# Altium integrated library Xilinx Spartan-IIE.IntLib: 136 symbols (part 5 of 25)
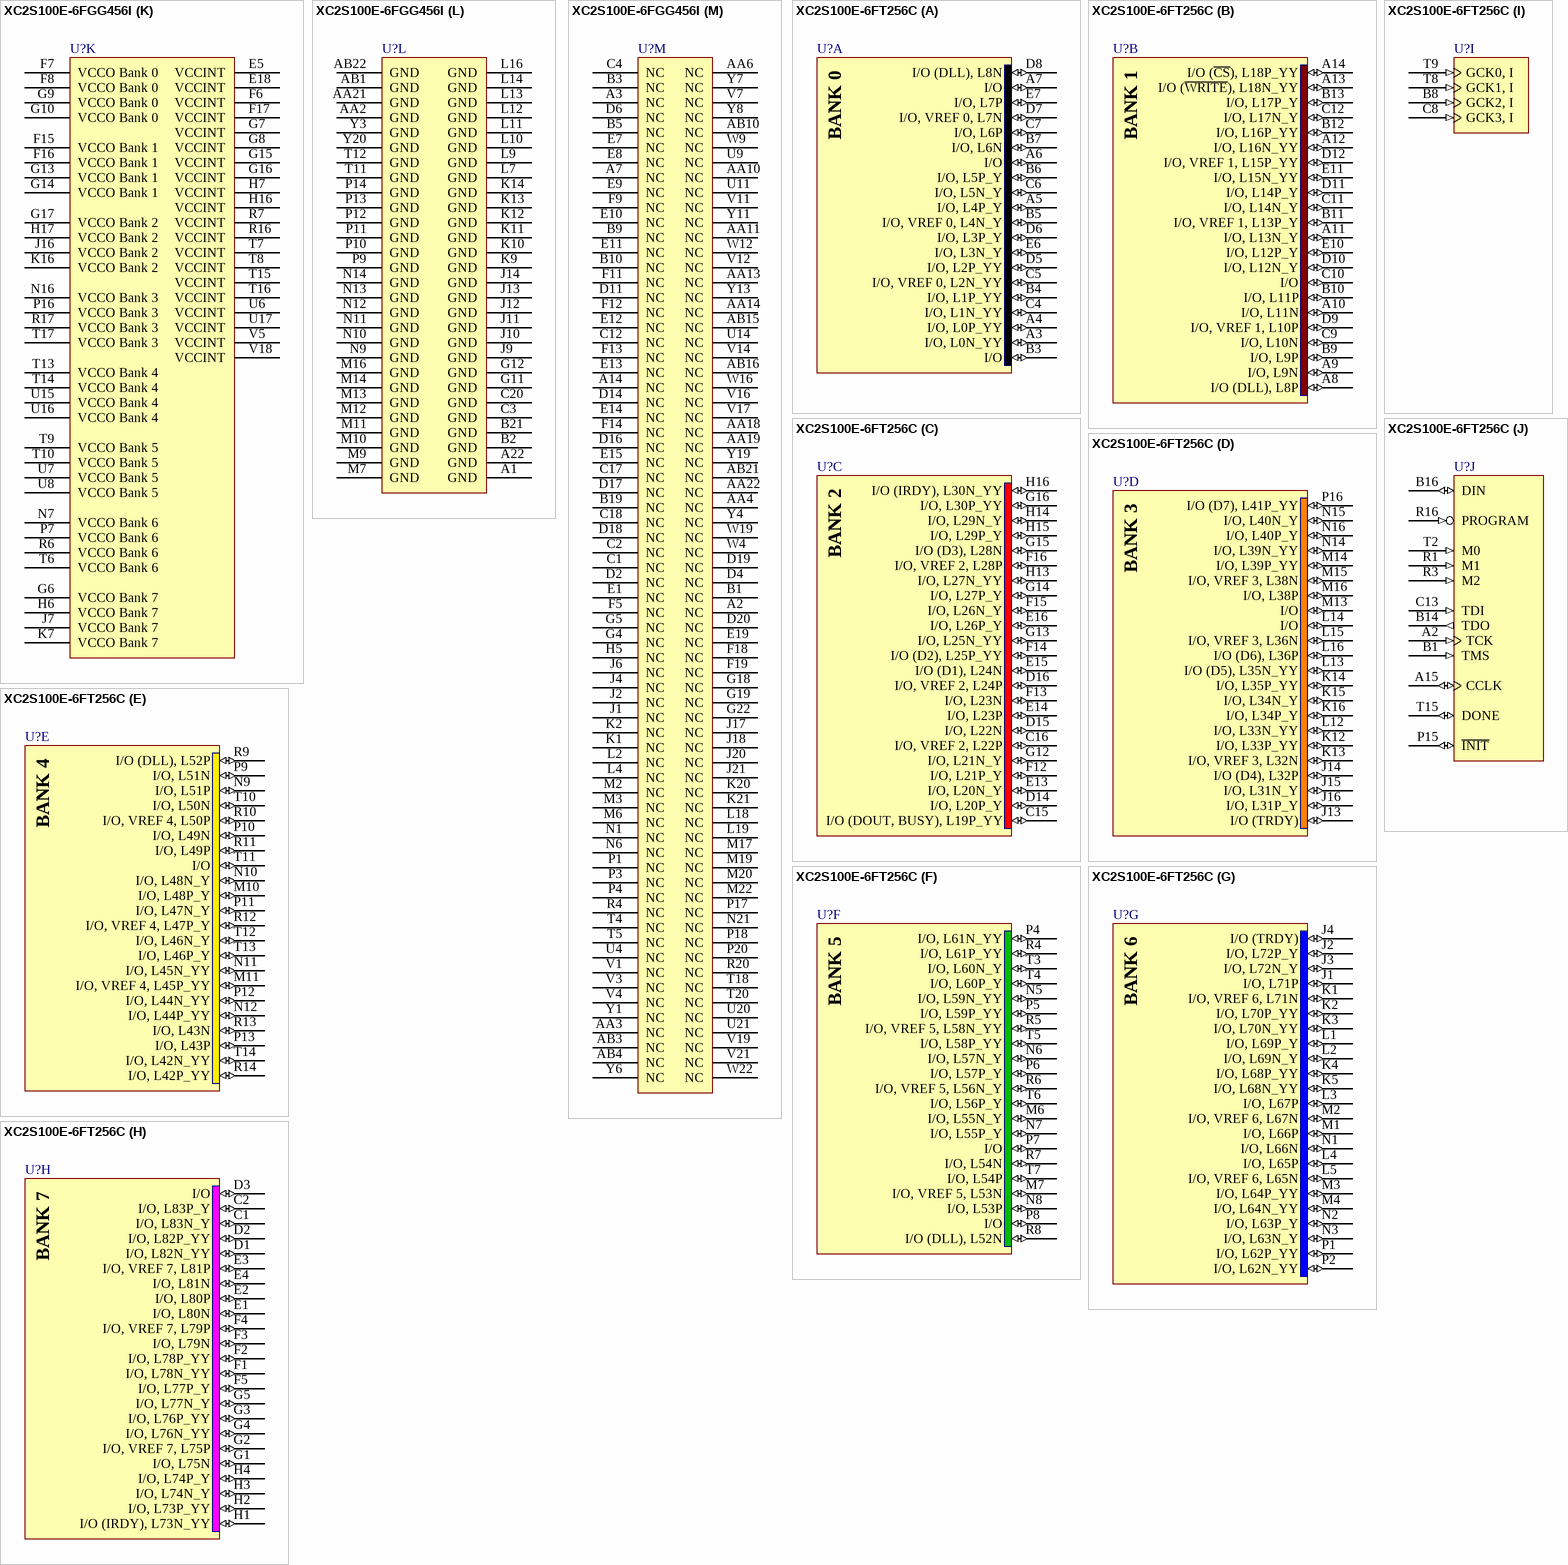
[diagram p132: symbols XC2S100E-6FGG456I to XC2S100E-6FT256C]

## XC2S100E-6FGG456I
designator U?
Spartan-IIE 1.8V FPGA, 202 User I/Os, 456-Ball FBGA, Standard Performance, Industrial Grade, Pb-Free; Published: 2-Mar-2006; LatestRevisionDate: 16-Nov-2009; LatestRevisionNote: Updated to datasheet version 2.3 Jun-2008.; DatasheetVersion: ver2.3, Jun-2008; PackageVersion: ver1.2.1, Mar-2005; PackageReference: FGG456; Publisher: Altium Limited; PackageDescription: 456-Ball Fine Pitch Ball Grid Array (FGG456) - Pb-Free; Code_JEDEC: MO-151-AAJ-1 (Depopulated); ComponentLink1Description: Spartan-IIE Datasheet; ComponentLink1URL: http://www.xilinx.com/support/documentation/data_sheets/ds077.pdf; ComponentLink2Description: FGG456 Package Drawing; ComponentLink2URL: http://www.xilinx.com/support/documentation/package_specs/fg456.pdf; ComponentLink3Description: Spartan-IIE Documents; ComponentLink3URL: http://www.xilinx.com/support/documentation/spartan-iie.htm; ComponentLink4Description: Xilinx.com Home; ComponentLink4URL: http://www.xilinx.com
footprint FGG456 (BGA, 456-Leads, Body 23x23mm, Pitch 1mm)
signal-integrity model XC2S100E_FGG456 (Spartan-IIE)
part A pins: A4 I/O (io), A5 I/O, L1N_Y (io), A6 I/O, L2P_YY (io), A8 I/O, L5P_Y (io), A9 I/O, L7N (io), A10 I/O (io), B4 I/O, L0P_Y (io), B6 I/O, VREF Bank 0, L2N_YY (io), B7 I/O (io), B8 I/O, L5N_Y (io), B11 I/O (DLL), L9N (io), C5 I/O, L0N_Y (io), C6 I/O, L1P_Y (io), C7 I/O, L3P (io), C8 I/O, L4P_Y (io), C9 I/O, L6P_Y (io), C10 I/O, L8P (io), D5 I/O (io), D7 I/O, L3N (io), D8 I/O, VREF Bank 0, L4N_Y (io), D9 I/O, L6N_Y (io), D10 I/O, VREF Bank 0, L8N (io), F10 I/O, L7P (io)
part B pins: A12 I/O (DLL), L9P (io), A13 I/O, L11N (io), A15 I/O, L14N_Y (io), A16 I/O, L16N_Y (io), A17 I/O, L18N_YY (io), A18 I/O, L19N_Y (io), A19 I/O (io), A20 I/O (~{WRITE}), L20N_YY (io), B12 I/O, L10P (io), B13 I/O, VREF Bank 1, L11P (io), B14 I/O, L13N_Y (io), B15 I/O, L14P_Y (io), B16 I/O, L16P_Y (io), B17 I/O, L18P_YY (io), B18 I/O, L19P_Y (io), B20 I/O (~{CS}), L20P_YY (io), C13 I/O, L12N (io), C14 I/O, L13P_Y (io), C15 I/O, L15N_Y (io), C16 I/O (io), D12 I/O, L10N (io), D13 I/O, L12P (io), D15 I/O, VREF Bank 1, L15P_Y (io), E16 I/O, VREF Bank 1, L17P_YY (io), E17 I/O, L17N_YY (io)
part C pins: C21 I/O (DOUT, BUSY), L21P_YY (io), D21 I/O, L22P_Y (io), D22 I/O, L22N_Y (io), E20 I/O (io), E21 I/O, L23N_Y (io), E22 I/O, L24N (io), F20 I/O, L23P_Y (io), F21 I/O, VREF Bank 2, L24P (io), F22 I/O (io), G20 I/O, L25P (io), G21 I/O, L25N (io), H18 I/O, VREF Bank 2, L26P (io), H19 I/O (D1), L26N (io), H20 I/O (D2) (io), H21 I/O (io), H22 I/O, L27P_Y (io), J19 I/O, L27N_Y (io), J22 I/O (io), K17 I/O, L28P_Y (io), K18 I/O, VREF Bank 2, L28N_Y (io), K19 I/O (D3) (io), K22 I/O, L29P_Y (io), L17 I/O, L29N_Y (io), L20 I/O, L30P_YY (io), L21 I/O (IRDY), L30N_YY (io)
part D pins: L22 I/O (TRDY) (io), M18 I/O, L31P_Y (io), M21 I/O, L31N_Y (io), N17 I/O (D4), L32P (io), N18 I/O, VREF Bank 3, L32N (io), N19 I/O, L33N_YY (io), N20 I/O, L33P_YY (io), N22 I/O, L34P_Y (io), P19 I/O, L34N_Y (io), P21 I/O, L35P_YY (io), P22 I/O (D5), L35N_YY (io), R18 I/O, VREF Bank 3, L36N (io), R19 I/O (D6), L36P (io), R21 I/O, L37N_Y (io), R22 I/O, L37P_Y (io), T19 I/O (io), T21 I/O, VREF Bank 3, L38N (io), T22 I/O, L38P (io), U18 I/O, L39N_Y (io), U19 I/O, L39P_Y (io), U22 I/O, L40P_Y (io), V20 I/O (io), V22 I/O, L40N_Y (io), Y22 I/O (D7), L41P_YY (io)
part E pins: AA15 I/O, L48N_Y (io), AA16 I/O, L46N (io), AA17 I/O, L45N_YY (io), AA20 I/O, L42P_YY (io), AB13 I/O, L52P (io), AB14 I/O, L50P (io), AB17 I/O (io), AB18 I/O, L44N_Y (io), AB19 I/O (io), AB20 I/O, L42N_YY (io), U12 I/O, L52N (io), U13 I/O, L50N (io), V13 I/O, VREF Bank 4, L51P (io), V15 I/O, VREF Bank 4, L47P_Y (io), W13 I/O, L51N (io), W14 I/O, L49P_Y (io), W15 I/O, L47N_Y (io), W17 I/O, L44P_Y (io), W18 I/O, L43P_Y (io), Y12 I/O (DLL), L53P (io), Y14 I/O, L49N_Y (io), Y15 I/O, L48P_Y (io), Y16 I/O, L46P (io), Y17 I/O, VREF Bank 4, L45P_YY (io), Y18 I/O, L43N_Y (io)
part F pins: AA5 I/O, L63N_Y (io), AA7 I/O, L60P_YY (io), AA8 I/O, L59P_Y (io), AA9 I/O, L57P_Y (io), AB5 I/O, L62N_Y (io), AB6 I/O, L62P_Y (io), AB7 I/O, VREF Bank 5, L60N_YY (io), AB8 I/O, L59N_Y (io), AB9 I/O, L57N_Y (io), AB11 I/O (DLL), L53N (io), U10 I/O, L54P (io), V6 I/O, L61N_YY (io), V8 I/O, VREF Bank 5, L58N_Y (io), V9 I/O, L56P_Y (io), V10 I/O, VREF Bank 5, L54N (io), W5 I/O, L63P_Y (io), W6 I/O, L61P_YY (io), W7 I/O (io), W8 I/O, L58P_Y (io), W10 I/O, L55N (io), W11 I/O (io), Y5 I/O (io), Y9 I/O, L56N_Y (io), Y10 I/O, L55P (io)
part G pins: M1 I/O (TRDY) (io), M4 I/O, L74P_Y (io), M5 I/O, L74N_Y (io), N2 I/O, L73P (io), N3 I/O, VREF Bank 6, L73N (io), N4 I/O, L72P_Y (io), N5 I/O, L72N_Y (io), P2 I/O, L71P_Y (io), P5 I/O, L70P_YY (io), P6 I/O, L70N_YY (io), R1 I/O, L71N_Y (io), R2 I/O, L69P (io), R3 I/O, VREF Bank 6, L69N (io), R5 I/O (io), T1 I/O, L67P (io), T2 I/O, L68P (io), T3 I/O, L68N (io), U1 I/O, VREF Bank 6, L67N (io), U2 I/O, L66P_Y (io), U3 I/O, L66N_Y (io), V2 I/O, L65N_Y (io), W1 I/O, L65P_Y (io), W2 I/O (io), W3 I/O, L64N_YY (io), Y2 I/O, L64P_YY (io)
part H pins: D1 I/O (io), D3 I/O (io), E2 I/O, L85P_Y (io), E3 I/O, L85N_Y (io), F1 I/O, L83N (io), F2 I/O, VREF Bank 7, L83P (io), F3 I/O, L84N_Y (io), F4 I/O, L84P_Y (io), G1 I/O, L82N_Y (io), G2 I/O, L82P_Y (io), G3 I/O (io), H1 I/O, L80N_YY (io), H2 I/O, L80P_YY (io), H3 I/O, VREF Bank 7, L81P (io), H4 I/O, L81N (io), J3 I/O, L79N_Y (io), J5 I/O, L79P_Y (io), K3 I/O, VREF Bank 7, L77P (io), K4 I/O, L77N (io), K5 I/O, L78P_YY (io), K6 I/O, L78N_YY (io), L1 I/O, L76P_Y (io), L3 I/O, L76N_Y (io), L5 I/O, L75P_YY (io), L6 I/O (IRDY), L75N_YY (io)
part I pins: A11 GCK2, I (in), AA12 GCK0, I (in), AB12 GCK1, I (in), C11 GCK3, I (in)
part J pins: A21 TDO (out), AA1 M0 (in), AB2 M2 (in), B22 CCLK (io), C19 TDI (in), C22 DIN (io) "I/O (DIN, D0), L21N_YY", E4 TMS (in), E6 TCK (in), U5 M1 (in), W20 DONE (io), W21 ~{INIT} (io) "I/O (I\N\I\T\), L41N_YY", Y21 PROGRAM (in)
part K pins: E5 VCCINT (power), E18 VCCINT (power), F6 VCCINT (power), F7 VCCO Bank 0 (power), F8 VCCO Bank 0 (power), F15 VCCO Bank 1 (power), F16 VCCO Bank 1 (power), F17 VCCINT (power), G6 VCCO Bank 7 (power), G7 VCCINT (power), G8 VCCINT (power), G9 VCCO Bank 0 (power), G10 VCCO Bank 0 (power), G13 VCCO Bank 1 (power), G14 VCCO Bank 1 (power), G15 VCCINT (power), G16 VCCINT (power), G17 VCCO Bank 2 (power), H6 VCCO Bank 7 (power), H7 VCCINT (power), H16 VCCINT (power), H17 VCCO Bank 2 (power), J7 VCCO Bank 7 (power), J16 VCCO Bank 2 (power), K7 VCCO Bank 7 (power), K16 VCCO Bank 2 (power), N7 VCCO Bank 6 (power), N16 VCCO Bank 3 (power), P7 VCCO Bank 6 (power), P16 VCCO Bank 3 (power), R6 VCCO Bank 6 (power), R7 VCCINT (power), R16 VCCINT (power), R17 VCCO Bank 3 (power), T6 VCCO Bank 6 (power), T7 VCCINT (power), T8 VCCINT (power), T9 VCCO Bank 5 (power), T10 VCCO Bank 5 (power), T13 VCCO Bank 4 (power), T14 VCCO Bank 4 (power), T15 VCCINT (power), T16 VCCINT (power), T17 VCCO Bank 3 (power), U6 VCCINT (power), U7 VCCO Bank 5 (power), U8 VCCO Bank 5 (power), U15 VCCO Bank 4 (power), U16 VCCO Bank 4 (power), U17 VCCINT (power), V5 VCCINT (power), V18 VCCINT (power)
part L pins: A1 GND (power), A22 GND (power), AA2 GND (power), AA21 GND (power), AB1 GND (power), AB22 GND (power), B2 GND (power), B21 GND (power), C3 GND (power), C20 GND (power), G11 GND (power), G12 GND (power), J9 GND (power), J10 GND (power), J11 GND (power), J12 GND (power), J13 GND (power), J14 GND (power), K9 GND (power), K10 GND (power), K11 GND (power), K12 GND (power), K13 GND (power), K14 GND (power), L7 GND (power), L9 GND (power), L10 GND (power), L11 GND (power), L12 GND (power), L13 GND (power), L14 GND (power), L16 GND (power), M7 GND (power), M9 GND (power), M10 GND (power), M11 GND (power), M12 GND (power), M13 GND (power), M14 GND (power), M16 GND (power), N9 GND (power), N10 GND (power), N11 GND (power), N12 GND (power), N13 GND (power), N14 GND (power), P9 GND (power), P10 GND (power), P11 GND (power), P12 GND (power), P13 GND (power), P14 GND (power), T11 GND (power), T12 GND (power), Y3 GND (power), Y20 GND (power)
part M pins: A2 NC, A3 NC, A7 NC, A14 NC, AA3 NC, AA4 NC, AA6 NC, AA10 NC, AA11 NC, AA13 NC, AA14 NC, AA18 NC, AA19 NC, AA22 NC, AB3 NC, AB4 NC, AB10 NC, AB15 NC, AB16 NC, AB21 NC, B1 NC, B3 NC, B5 NC, B9 NC, B10 NC, B19 NC, C1 NC, C2 NC, C4 NC, C12 NC, C17 NC, C18 NC, D2 NC, D4 NC, D6 NC, D11 NC, D14 NC, D16 NC, D17 NC, D18 NC, D19 NC, D20 NC, E1 NC, E7 NC, E8 NC, E9 NC, E10 NC, E11 NC, E12 NC, E13 NC, E14 NC, E15 NC, E19 NC, F5 NC, F9 NC, F11 NC, F12 NC, F13 NC, F14 NC, F18 NC, F19 NC, G4 NC, G5 NC, G18 NC, G19 NC, G22 NC, H5 NC, J1 NC, J2 NC, J4 NC, J6 NC, J17 NC, J18 NC, J20 NC, J21 NC, K1 NC, K2 NC, K20 NC, K21 NC, L2 NC, L4 NC, L18 NC, L19 NC, M2 NC, M3 NC, M6 NC, M17 NC, M19 NC, M20 NC, M22 NC, N1 NC, N6 NC, N21 NC, P1 NC, P3 NC, P4 NC, P17 NC, P18 NC, P20 NC, R4 NC, R20 NC, T4 NC, T5 NC, T18 NC, T20 NC, U4 NC, U9 NC, U11 NC, U14 NC, U20 NC, U21 NC, V1 NC, V3 NC, V4 NC, V7 NC, V11 NC, V12 NC, V14 NC, V16 NC, V17 NC, V19 NC, V21 NC, W4 NC, W9 NC, W12 NC, W16 NC, W19 NC, W22 NC, Y1 NC, Y4 NC, Y6 NC, Y7 NC, Y8 NC, Y11 NC, Y13 NC, Y19 NC
part A text: BANK 0
part B text: BANK 1
part C text: BANK 2
part D text: BANK 3
part E text: BANK 4
part F text: BANK 5
part G text: BANK 6
part H text: BANK 7

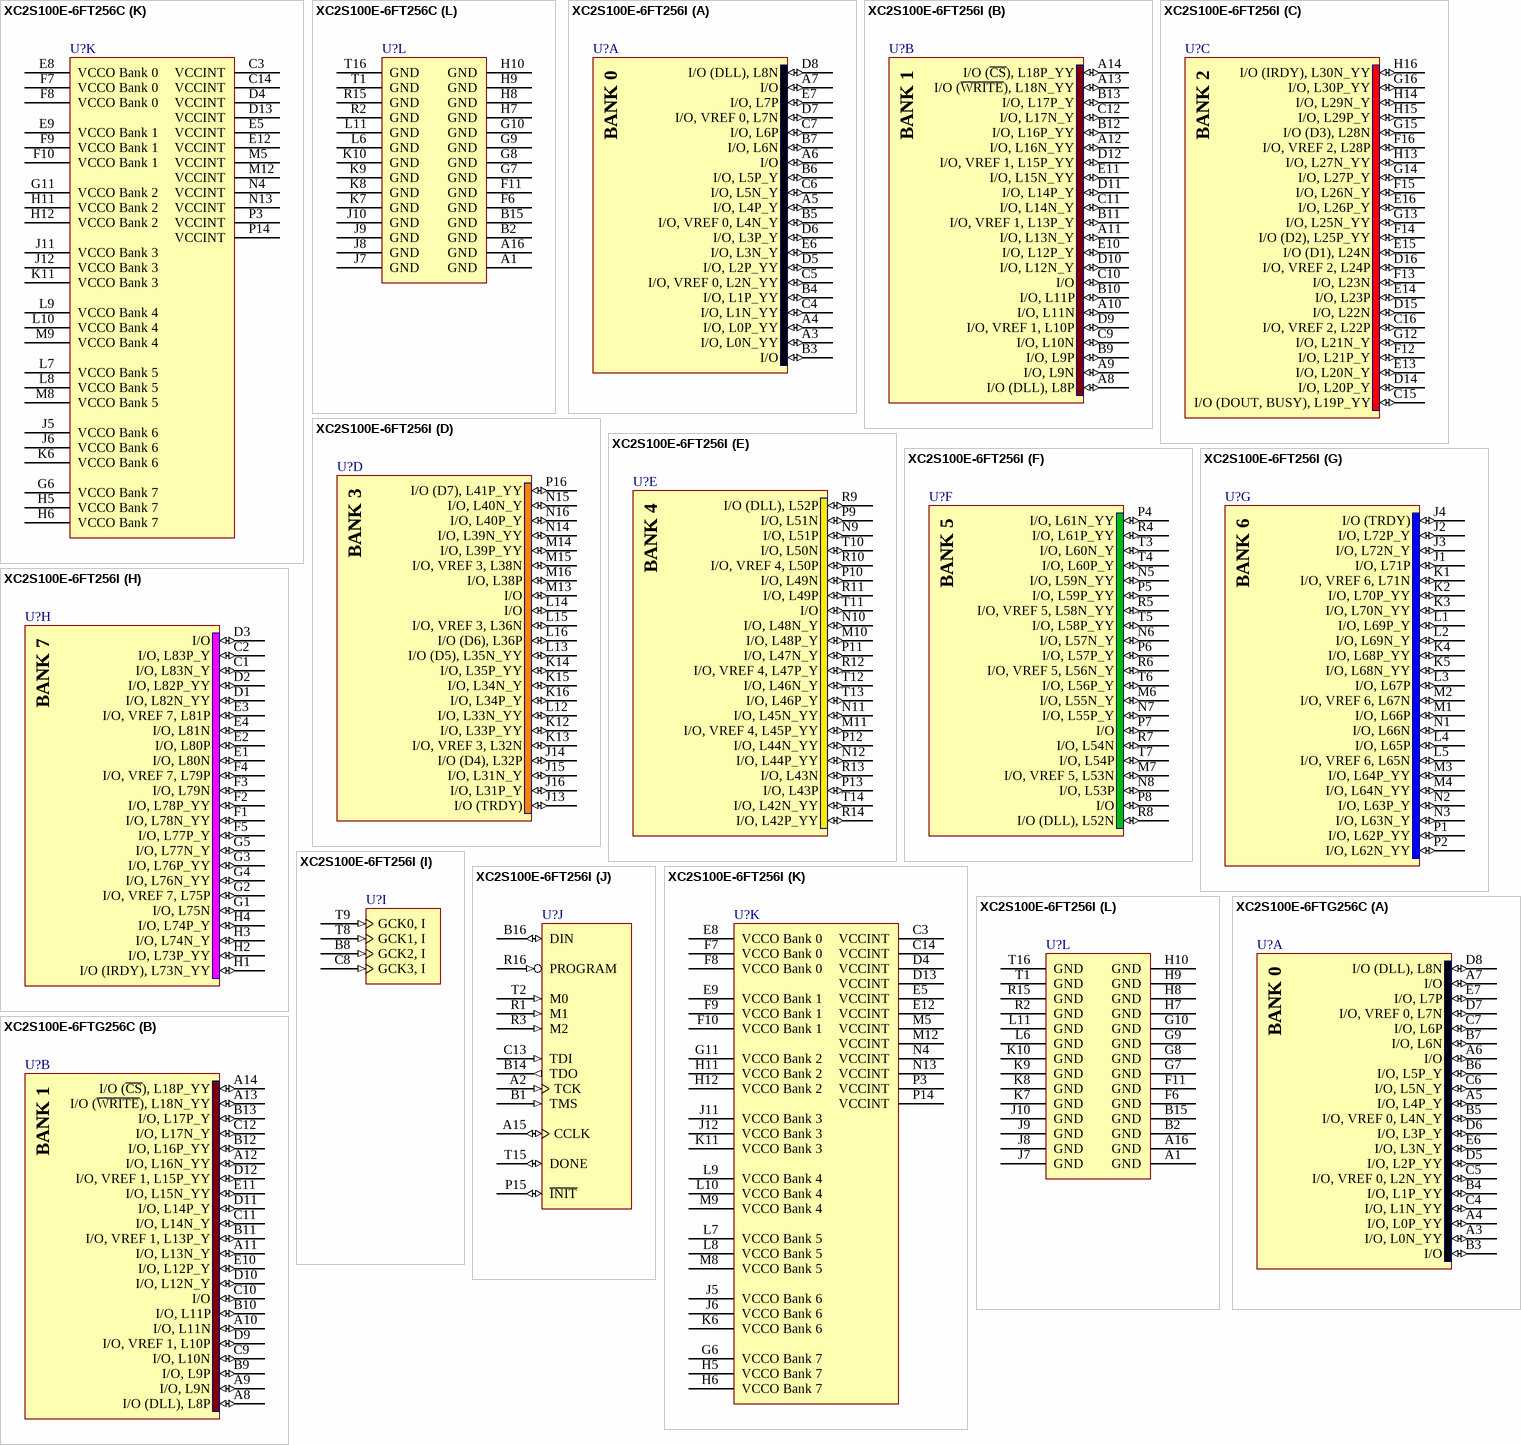
[diagram p22: symbols XC2S100E-6FT256C to XC2S100E-6FTG256C]

## XC2S100E-6FT256C
designator U?
Spartan-IIE 1.8V FPGA, 182 User I/Os, 256-Ball FTBGA, Standard Performance, Commercial Grade; Published: 19-Jul-2002; LatestRevisionDate: 16-Nov-2009; LatestRevisionNote: Updated to datasheet version 2.3 Jun-2008.; DatasheetVersion: ver2.3, Jun-2008; PackageVersion: ver1.3, Oct-2007; PackageReference: FT256; Publisher: Altium Limited; PackageDescription: 256-Ball Fine Pitch Thin Ball Grid Array 1.00 mm Pitch (FT256); Supplier 1: Digi-Key; Supplier Part Number 1: 122-1208-ND; Code_JEDEC: MS-034-AAF-1*; ComponentLink1Description: Spartan-IIE Datasheet; ComponentLink1URL: http://www.xilinx.com/support/documentation/data_sheets/ds077.pdf; ComponentLink2Description: FT256 Package Drawing; ComponentLink2URL: http://www.xilinx.com/support/documentation/package_specs/ft256.pdf; ComponentLink3Description: Spartan-IIE Documents; ComponentLink3URL: http://www.xilinx.com/support/documentation/spartan-iie.htm; ComponentLink4Description: Xilinx.com Home; ComponentLink4URL: http://www.xilinx.com
footprint FT256 (BGA, 256-Leads, Body 17x17mm, Pitch 1mm)
signal-integrity model XC2S100E_FT256 (Spartan-IIE)
part A pins: A3 I/O, L0N_YY (io), A4 I/O, L0P_YY (io), A5 I/O, L4P_Y (io), A6 I/O (io), A7 I/O (io), B3 I/O (io), B4 I/O, L1P_YY (io), B5 I/O, VREF 0, L4N_Y (io), B6 I/O, L5P_Y (io), B7 I/O, L6N (io), C4 I/O, L1N_YY (io), C5 I/O, VREF 0, L2N_YY (io), C6 I/O, L5N_Y (io), C7 I/O, L6P (io), D5 I/O, L2P_YY (io), D6 I/O, L3P_Y (io), D7 I/O, VREF 0, L7N (io), D8 I/O (DLL), L8N (io), E6 I/O, L3N_Y (io), E7 I/O, L7P (io)
part B pins: A8 I/O (DLL), L8P (io), A9 I/O, L9N (io), A10 I/O, L11N (io), A11 I/O, L13N_Y (io), A12 I/O, L16N_YY (io), A13 I/O (~{WRITE}), L18N_YY (io), A14 I/O (~{CS}), L18P_YY (io), B9 I/O, L9P (io), B10 I/O, L11P (io), B11 I/O, VREF 1, L13P_Y (io), B12 I/O, L16P_YY (io), B13 I/O, L17P_Y (io), C9 I/O, L10N (io), C10 I/O (io), C11 I/O, L14N_Y (io), C12 I/O, L17N_Y (io), D9 I/O, VREF 1, L10P (io), D10 I/O, L12N_Y (io), D11 I/O, L14P_Y (io), D12 I/O, VREF 1, L15P_YY (io), E10 I/O, L12P_Y (io), E11 I/O, L15N_YY (io)
part C pins: C15 I/O (DOUT, BUSY), L19P_YY (io), C16 I/O, VREF 2, L22P (io), D14 I/O, L20P_Y (io), D15 I/O, L22N (io), D16 I/O, VREF 2, L24P (io), E13 I/O, L20N_Y (io), E14 I/O, L23P (io), E15 I/O (D1), L24N (io), E16 I/O, L26P_Y (io), F12 I/O, L21P_Y (io), F13 I/O, L23N (io), F14 I/O (D2), L25P_YY (io), F15 I/O, L26N_Y (io), F16 I/O, VREF 2, L28P (io), G12 I/O, L21N_Y (io), G13 I/O, L25N_YY (io), G14 I/O, L27P_Y (io), G15 I/O (D3), L28N (io), G16 I/O, L30P_YY (io), H13 I/O, L27N_YY (io), H14 I/O, L29N_Y (io), H15 I/O, L29P_Y (io), H16 I/O (IRDY), L30N_YY (io)
part D pins: J13 I/O (TRDY) (io), J14 I/O (D4), L32P (io), J15 I/O, L31N_Y (io), J16 I/O, L31P_Y (io), K12 I/O, L33P_YY (io), K13 I/O, VREF 3, L32N (io), K14 I/O, L35P_YY (io), K15 I/O, L34N_Y (io), K16 I/O, L34P_Y (io), L12 I/O, L33N_YY (io), L13 I/O (D5), L35N_YY (io), L14 I/O (io), L15 I/O, VREF 3, L36N (io), L16 I/O (D6), L36P (io), M13 I/O (io), M14 I/O, L39P_YY (io), M15 I/O, VREF 3, L38N (io), M16 I/O, L38P (io), N14 I/O, L39N_YY (io), N15 I/O, L40N_Y (io), N16 I/O, L40P_Y (io), P16 I/O (D7), L41P_YY (io)
part E pins: M10 I/O, L48P_Y (io), M11 I/O, VREF 4, L45P_YY (io), N9 I/O, L51P (io), N10 I/O, L48N_Y (io), N11 I/O, L45N_YY (io), N12 I/O, L44P_YY (io), P9 I/O, L51N (io), P10 I/O, L49N (io), P11 I/O, L47N_Y (io), P12 I/O, L44N_YY (io), P13 I/O, L43P (io), R9 I/O (DLL), L52P (io), R10 I/O, VREF 4, L50P (io), R11 I/O, L49P (io), R12 I/O, VREF 4, L47P_Y (io), R13 I/O, L43N (io), R14 I/O, L42P_YY (io), T10 I/O, L50N (io), T11 I/O (io), T12 I/O, L46N_Y (io), T13 I/O, L46P_Y (io), T14 I/O, L42N_YY (io)
part F pins: M6 I/O, L55N_Y (io), M7 I/O, VREF 5, L53N (io), N5 I/O, L59N_YY (io), N6 I/O, L57N_Y (io), N7 I/O, L55P_Y (io), N8 I/O, L53P (io), P4 I/O, L61N_YY (io), P5 I/O, L59P_YY (io), P6 I/O, L57P_Y (io), P7 I/O (io), P8 I/O (io), R4 I/O, L61P_YY (io), R5 I/O, VREF 5, L58N_YY (io), R6 I/O, VREF 5, L56N_Y (io), R7 I/O, L54N (io), R8 I/O (DLL), L52N (io), T3 I/O, L60N_Y (io), T4 I/O, L60P_Y (io), T5 I/O, L58P_YY (io), T6 I/O, L56P_Y (io), T7 I/O, L54P (io)
part G pins: J1 I/O, L71P (io), J2 I/O, L72P_Y (io), J3 I/O, L72N_Y (io), J4 I/O (TRDY) (io), K1 I/O, VREF 6, L71N (io), K2 I/O, L70P_YY (io), K3 I/O, L70N_YY (io), K4 I/O, L68P_YY (io), K5 I/O, L68N_YY (io), L1 I/O, L69P_Y (io), L2 I/O, L69N_Y (io), L3 I/O, L67P (io), L4 I/O, L65P (io), L5 I/O, VREF 6, L65N (io), M1 I/O, L66P (io), M2 I/O, VREF 6, L67N (io), M3 I/O, L64P_YY (io), M4 I/O, L64N_YY (io), N1 I/O, L66N (io), N2 I/O, L63P_Y (io), N3 I/O, L63N_Y (io), P1 I/O, L62P_YY (io), P2 I/O, L62N_YY (io)
part H pins: C1 I/O, L83N_Y (io), C2 I/O, L83P_Y (io), D1 I/O, L82N_YY (io), D2 I/O, L82P_YY (io), D3 I/O (io), E1 I/O, L80N (io), E2 I/O, L80P (io), E3 I/O, VREF 7, L81P (io), E4 I/O, L81N (io), F1 I/O, L78N_YY (io), F2 I/O, L78P_YY (io), F3 I/O, L79N (io), F4 I/O, VREF 7, L79P (io), F5 I/O, L77P_Y (io), G1 I/O, L75N (io), G2 I/O, VREF 7, L75P (io), G3 I/O, L76P_YY (io), G4 I/O, L76N_YY (io), G5 I/O, L77N_Y (io), H1 I/O (IRDY), L73N_YY (io), H2 I/O, L73P_YY (io), H3 I/O, L74N_Y (io), H4 I/O, L74P_Y (io)
part I pins: B8 GCK2, I (in), C8 GCK3, I (in), T8 GCK1, I (in), T9 GCK0, I (in)
part J pins: A2 TCK (in), A15 CCLK (io), B1 TMS (in), B14 TDO (out), B16 DIN (io) "I/O (DIN, D0), L19N_YY", C13 TDI (in), P15 ~{INIT} (io) "I/O (I\N\I\T\), L41N_YY", R1 M1 (in), R3 M2 (in), R16 PROGRAM (in), T2 M0 (in), T15 DONE (io)
part K pins: C3 VCCINT (power), C14 VCCINT (power), D4 VCCINT (power), D13 VCCINT (power), E5 VCCINT (power), E8 VCCO Bank 0 (power), E9 VCCO Bank 1 (power), E12 VCCINT (power), F7 VCCO Bank 0 (power), F8 VCCO Bank 0 (power), F9 VCCO Bank 1 (power), F10 VCCO Bank 1 (power), G6 VCCO Bank 7 (power), G11 VCCO Bank 2 (power), H5 VCCO Bank 7 (power), H6 VCCO Bank 7 (power), H11 VCCO Bank 2 (power), H12 VCCO Bank 2 (power), J5 VCCO Bank 6 (power), J6 VCCO Bank 6 (power), J11 VCCO Bank 3 (power), J12 VCCO Bank 3 (power), K6 VCCO Bank 6 (power), K11 VCCO Bank 3 (power), L7 VCCO Bank 5 (power), L8 VCCO Bank 5 (power), L9 VCCO Bank 4 (power), L10 VCCO Bank 4 (power), M5 VCCINT (power), M8 VCCO Bank 5 (power), M9 VCCO Bank 4 (power), M12 VCCINT (power), N4 VCCINT (power), N13 VCCINT (power), P3 VCCINT (power), P14 VCCINT (power)
part L pins: A1 GND (power), A16 GND (power), B2 GND (power), B15 GND (power), F6 GND (power), F11 GND (power), G7 GND (power), G8 GND (power), G9 GND (power), G10 GND (power), H7 GND (power), H8 GND (power), H9 GND (power), H10 GND (power), J7 GND (power), J8 GND (power), J9 GND (power), J10 GND (power), K7 GND (power), K8 GND (power), K9 GND (power), K10 GND (power), L6 GND (power), L11 GND (power), R2 GND (power), R15 GND (power), T1 GND (power), T16 GND (power)
part A text: BANK 0
part B text: BANK 1
part C text: BANK 2
part D text: BANK 3
part E text: BANK 4
part F text: BANK 5
part G text: BANK 6
part H text: BANK 7

## XC2S100E-6FT256I
designator U?
Spartan-IIE 1.8V FPGA, 182 User I/Os, 256-Ball FTBGA, Standard Performance, Industrial Grade; Published: 19-Jul-2002; LatestRevisionDate: 16-Nov-2009; LatestRevisionNote: Updated to datasheet version 2.3 Jun-2008.; DatasheetVersion: ver2.3, Jun-2008; PackageVersion: ver1.3, Oct-2007; PackageReference: FT256; Publisher: Altium Limited; PackageDescription: 256-Ball Fine Pitch Thin Ball Grid Array 1.00 mm Pitch (FT256); Code_JEDEC: MS-034-AAF-1*; ComponentLink1Description: Spartan-IIE Datasheet; ComponentLink1URL: http://www.xilinx.com/support/documentation/data_sheets/ds077.pdf; ComponentLink2Description: FT256 Package Drawing; ComponentLink2URL: http://www.xilinx.com/support/documentation/package_specs/ft256.pdf; ComponentLink3Description: Spartan-IIE Documents; ComponentLink3URL: http://www.xilinx.com/support/documentation/spartan-iie.htm; ComponentLink4Description: Xilinx.com Home; ComponentLink4URL: http://www.xilinx.com
footprint FT256 (BGA, 256-Leads, Body 17x17mm, Pitch 1mm)
signal-integrity model XC2S100E_FT256 (Spartan-IIE)
part A pins: A3 I/O, L0N_YY (io), A4 I/O, L0P_YY (io), A5 I/O, L4P_Y (io), A6 I/O (io), A7 I/O (io), B3 I/O (io), B4 I/O, L1P_YY (io), B5 I/O, VREF 0, L4N_Y (io), B6 I/O, L5P_Y (io), B7 I/O, L6N (io), C4 I/O, L1N_YY (io), C5 I/O, VREF 0, L2N_YY (io), C6 I/O, L5N_Y (io), C7 I/O, L6P (io), D5 I/O, L2P_YY (io), D6 I/O, L3P_Y (io), D7 I/O, VREF 0, L7N (io), D8 I/O (DLL), L8N (io), E6 I/O, L3N_Y (io), E7 I/O, L7P (io)
part B pins: A8 I/O (DLL), L8P (io), A9 I/O, L9N (io), A10 I/O, L11N (io), A11 I/O, L13N_Y (io), A12 I/O, L16N_YY (io), A13 I/O (~{WRITE}), L18N_YY (io), A14 I/O (~{CS}), L18P_YY (io), B9 I/O, L9P (io), B10 I/O, L11P (io), B11 I/O, VREF 1, L13P_Y (io), B12 I/O, L16P_YY (io), B13 I/O, L17P_Y (io), C9 I/O, L10N (io), C10 I/O (io), C11 I/O, L14N_Y (io), C12 I/O, L17N_Y (io), D9 I/O, VREF 1, L10P (io), D10 I/O, L12N_Y (io), D11 I/O, L14P_Y (io), D12 I/O, VREF 1, L15P_YY (io), E10 I/O, L12P_Y (io), E11 I/O, L15N_YY (io)
part C pins: C15 I/O (DOUT, BUSY), L19P_YY (io), C16 I/O, VREF 2, L22P (io), D14 I/O, L20P_Y (io), D15 I/O, L22N (io), D16 I/O, VREF 2, L24P (io), E13 I/O, L20N_Y (io), E14 I/O, L23P (io), E15 I/O (D1), L24N (io), E16 I/O, L26P_Y (io), F12 I/O, L21P_Y (io), F13 I/O, L23N (io), F14 I/O (D2), L25P_YY (io), F15 I/O, L26N_Y (io), F16 I/O, VREF 2, L28P (io), G12 I/O, L21N_Y (io), G13 I/O, L25N_YY (io), G14 I/O, L27P_Y (io), G15 I/O (D3), L28N (io), G16 I/O, L30P_YY (io), H13 I/O, L27N_YY (io), H14 I/O, L29N_Y (io), H15 I/O, L29P_Y (io), H16 I/O (IRDY), L30N_YY (io)
part D pins: J13 I/O (TRDY) (io), J14 I/O (D4), L32P (io), J15 I/O, L31N_Y (io), J16 I/O, L31P_Y (io), K12 I/O, L33P_YY (io), K13 I/O, VREF 3, L32N (io), K14 I/O, L35P_YY (io), K15 I/O, L34N_Y (io), K16 I/O, L34P_Y (io), L12 I/O, L33N_YY (io), L13 I/O (D5), L35N_YY (io), L14 I/O (io), L15 I/O, VREF 3, L36N (io), L16 I/O (D6), L36P (io), M13 I/O (io), M14 I/O, L39P_YY (io), M15 I/O, VREF 3, L38N (io), M16 I/O, L38P (io), N14 I/O, L39N_YY (io), N15 I/O, L40N_Y (io), N16 I/O, L40P_Y (io), P16 I/O (D7), L41P_YY (io)
part E pins: M10 I/O, L48P_Y (io), M11 I/O, VREF 4, L45P_YY (io), N9 I/O, L51P (io), N10 I/O, L48N_Y (io), N11 I/O, L45N_YY (io), N12 I/O, L44P_YY (io), P9 I/O, L51N (io), P10 I/O, L49N (io), P11 I/O, L47N_Y (io), P12 I/O, L44N_YY (io), P13 I/O, L43P (io), R9 I/O (DLL), L52P (io), R10 I/O, VREF 4, L50P (io), R11 I/O, L49P (io), R12 I/O, VREF 4, L47P_Y (io), R13 I/O, L43N (io), R14 I/O, L42P_YY (io), T10 I/O, L50N (io), T11 I/O (io), T12 I/O, L46N_Y (io), T13 I/O, L46P_Y (io), T14 I/O, L42N_YY (io)
part F pins: M6 I/O, L55N_Y (io), M7 I/O, VREF 5, L53N (io), N5 I/O, L59N_YY (io), N6 I/O, L57N_Y (io), N7 I/O, L55P_Y (io), N8 I/O, L53P (io), P4 I/O, L61N_YY (io), P5 I/O, L59P_YY (io), P6 I/O, L57P_Y (io), P7 I/O (io), P8 I/O (io), R4 I/O, L61P_YY (io), R5 I/O, VREF 5, L58N_YY (io), R6 I/O, VREF 5, L56N_Y (io), R7 I/O, L54N (io), R8 I/O (DLL), L52N (io), T3 I/O, L60N_Y (io), T4 I/O, L60P_Y (io), T5 I/O, L58P_YY (io), T6 I/O, L56P_Y (io), T7 I/O, L54P (io)
part G pins: J1 I/O, L71P (io), J2 I/O, L72P_Y (io), J3 I/O, L72N_Y (io), J4 I/O (TRDY) (io), K1 I/O, VREF 6, L71N (io), K2 I/O, L70P_YY (io), K3 I/O, L70N_YY (io), K4 I/O, L68P_YY (io), K5 I/O, L68N_YY (io), L1 I/O, L69P_Y (io), L2 I/O, L69N_Y (io), L3 I/O, L67P (io), L4 I/O, L65P (io), L5 I/O, VREF 6, L65N (io), M1 I/O, L66P (io), M2 I/O, VREF 6, L67N (io), M3 I/O, L64P_YY (io), M4 I/O, L64N_YY (io), N1 I/O, L66N (io), N2 I/O, L63P_Y (io), N3 I/O, L63N_Y (io), P1 I/O, L62P_YY (io), P2 I/O, L62N_YY (io)
part H pins: C1 I/O, L83N_Y (io), C2 I/O, L83P_Y (io), D1 I/O, L82N_YY (io), D2 I/O, L82P_YY (io), D3 I/O (io), E1 I/O, L80N (io), E2 I/O, L80P (io), E3 I/O, VREF 7, L81P (io), E4 I/O, L81N (io), F1 I/O, L78N_YY (io), F2 I/O, L78P_YY (io), F3 I/O, L79N (io), F4 I/O, VREF 7, L79P (io), F5 I/O, L77P_Y (io), G1 I/O, L75N (io), G2 I/O, VREF 7, L75P (io), G3 I/O, L76P_YY (io), G4 I/O, L76N_YY (io), G5 I/O, L77N_Y (io), H1 I/O (IRDY), L73N_YY (io), H2 I/O, L73P_YY (io), H3 I/O, L74N_Y (io), H4 I/O, L74P_Y (io)
part I pins: B8 GCK2, I (in), C8 GCK3, I (in), T8 GCK1, I (in), T9 GCK0, I (in)
part J pins: A2 TCK (in), A15 CCLK (io), B1 TMS (in), B14 TDO (out), B16 DIN (io) "I/O (DIN, D0), L19N_YY", C13 TDI (in), P15 ~{INIT} (io) "I/O (I\N\I\T\), L41N_YY", R1 M1 (in), R3 M2 (in), R16 PROGRAM (in), T2 M0 (in), T15 DONE (io)
part K pins: C3 VCCINT (power), C14 VCCINT (power), D4 VCCINT (power), D13 VCCINT (power), E5 VCCINT (power), E8 VCCO Bank 0 (power), E9 VCCO Bank 1 (power), E12 VCCINT (power), F7 VCCO Bank 0 (power), F8 VCCO Bank 0 (power), F9 VCCO Bank 1 (power), F10 VCCO Bank 1 (power), G6 VCCO Bank 7 (power), G11 VCCO Bank 2 (power), H5 VCCO Bank 7 (power), H6 VCCO Bank 7 (power), H11 VCCO Bank 2 (power), H12 VCCO Bank 2 (power), J5 VCCO Bank 6 (power), J6 VCCO Bank 6 (power), J11 VCCO Bank 3 (power), J12 VCCO Bank 3 (power), K6 VCCO Bank 6 (power), K11 VCCO Bank 3 (power), L7 VCCO Bank 5 (power), L8 VCCO Bank 5 (power), L9 VCCO Bank 4 (power), L10 VCCO Bank 4 (power), M5 VCCINT (power), M8 VCCO Bank 5 (power), M9 VCCO Bank 4 (power), M12 VCCINT (power), N4 VCCINT (power), N13 VCCINT (power), P3 VCCINT (power), P14 VCCINT (power)
part L pins: A1 GND (power), A16 GND (power), B2 GND (power), B15 GND (power), F6 GND (power), F11 GND (power), G7 GND (power), G8 GND (power), G9 GND (power), G10 GND (power), H7 GND (power), H8 GND (power), H9 GND (power), H10 GND (power), J7 GND (power), J8 GND (power), J9 GND (power), J10 GND (power), K7 GND (power), K8 GND (power), K9 GND (power), K10 GND (power), L6 GND (power), L11 GND (power), R2 GND (power), R15 GND (power), T1 GND (power), T16 GND (power)
part A text: BANK 0
part B text: BANK 1
part C text: BANK 2
part D text: BANK 3
part E text: BANK 4
part F text: BANK 5
part G text: BANK 6
part H text: BANK 7

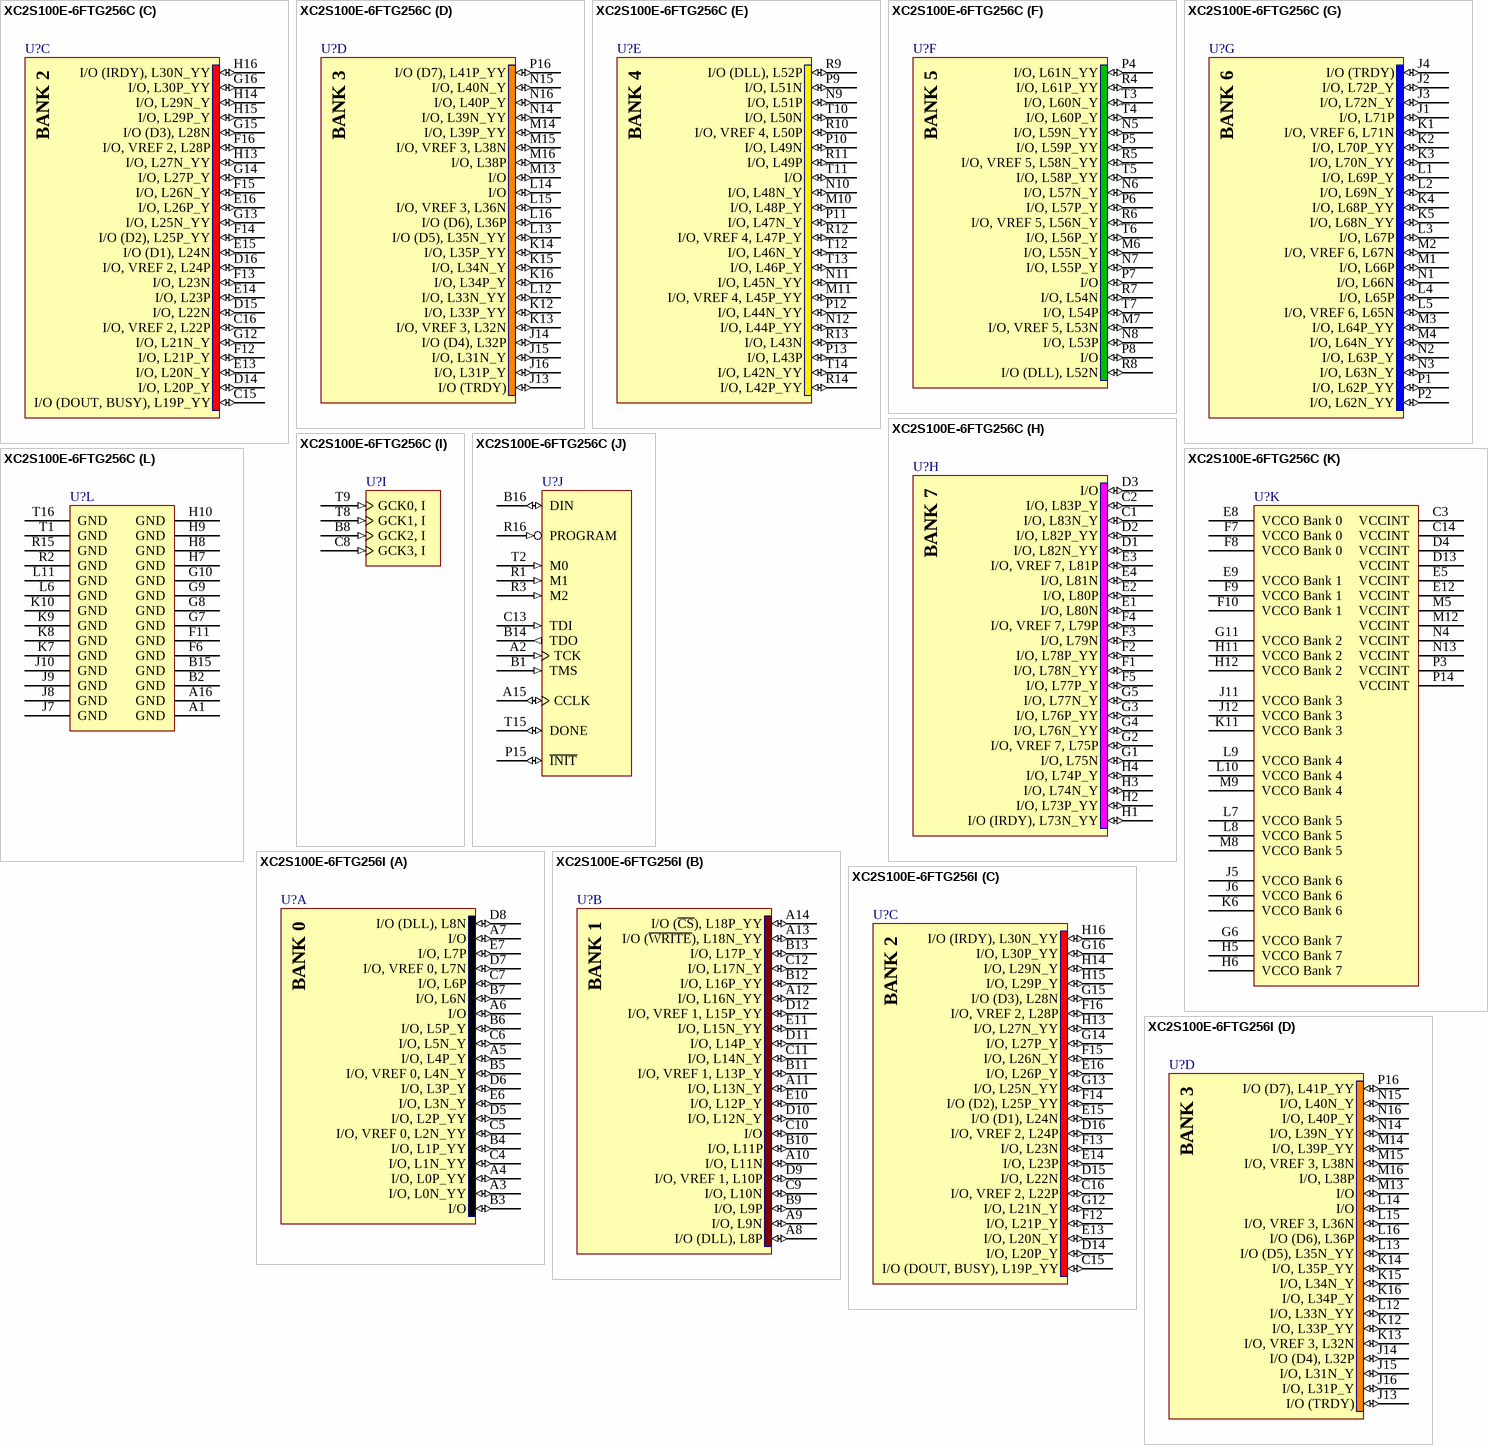
[diagram p23: symbols XC2S100E-6FTG256C to XC2S100E-6FTG256I]

## XC2S100E-6FTG256C
designator U?
Spartan-IIE 1.8V FPGA, 182 User I/Os, 256-Ball FTBGA, Standard Performance, Commercial Grade, Pb-Free; Published: 2-Mar-2006; LatestRevisionDate: 16-Nov-2009; LatestRevisionNote: Updated to datasheet version 2.3 Jun-2008.; DatasheetVersion: ver2.3, Jun-2008; PackageVersion: ver1.3, Oct-2007; PackageReference: FTG256; Publisher: Altium Limited; PackageDescription: 256-Ball Fine Pitch Thin Ball Grid Array 1.00 mm Pitch (FTG256) - Pb-Free; Supplier 1: Digi-Key; Supplier Part Number 1: 122-1322-ND; Code_JEDEC: MS-034-AAF-1*; ComponentLink1Description: Spartan-IIE Datasheet; ComponentLink1URL: http://www.xilinx.com/support/documentation/data_sheets/ds077.pdf; ComponentLink2Description: FTG256 Package Drawing; ComponentLink2URL: http://www.xilinx.com/support/documentation/package_specs/ft256.pdf; ComponentLink3Description: Spartan-IIE Documents; ComponentLink3URL: http://www.xilinx.com/support/documentation/spartan-iie.htm; ComponentLink4Description: Xilinx.com Home; ComponentLink4URL: http://www.xilinx.com
footprint FTG256 (BGA, 256-Leads, Body 17x17mm, Pitch 1mm)
signal-integrity model XC2S100E_FTG256 (Spartan-IIE)
part A pins: A3 I/O, L0N_YY (io), A4 I/O, L0P_YY (io), A5 I/O, L4P_Y (io), A6 I/O (io), A7 I/O (io), B3 I/O (io), B4 I/O, L1P_YY (io), B5 I/O, VREF 0, L4N_Y (io), B6 I/O, L5P_Y (io), B7 I/O, L6N (io), C4 I/O, L1N_YY (io), C5 I/O, VREF 0, L2N_YY (io), C6 I/O, L5N_Y (io), C7 I/O, L6P (io), D5 I/O, L2P_YY (io), D6 I/O, L3P_Y (io), D7 I/O, VREF 0, L7N (io), D8 I/O (DLL), L8N (io), E6 I/O, L3N_Y (io), E7 I/O, L7P (io)
part B pins: A8 I/O (DLL), L8P (io), A9 I/O, L9N (io), A10 I/O, L11N (io), A11 I/O, L13N_Y (io), A12 I/O, L16N_YY (io), A13 I/O (~{WRITE}), L18N_YY (io), A14 I/O (~{CS}), L18P_YY (io), B9 I/O, L9P (io), B10 I/O, L11P (io), B11 I/O, VREF 1, L13P_Y (io), B12 I/O, L16P_YY (io), B13 I/O, L17P_Y (io), C9 I/O, L10N (io), C10 I/O (io), C11 I/O, L14N_Y (io), C12 I/O, L17N_Y (io), D9 I/O, VREF 1, L10P (io), D10 I/O, L12N_Y (io), D11 I/O, L14P_Y (io), D12 I/O, VREF 1, L15P_YY (io), E10 I/O, L12P_Y (io), E11 I/O, L15N_YY (io)
part C pins: C15 I/O (DOUT, BUSY), L19P_YY (io), C16 I/O, VREF 2, L22P (io), D14 I/O, L20P_Y (io), D15 I/O, L22N (io), D16 I/O, VREF 2, L24P (io), E13 I/O, L20N_Y (io), E14 I/O, L23P (io), E15 I/O (D1), L24N (io), E16 I/O, L26P_Y (io), F12 I/O, L21P_Y (io), F13 I/O, L23N (io), F14 I/O (D2), L25P_YY (io), F15 I/O, L26N_Y (io), F16 I/O, VREF 2, L28P (io), G12 I/O, L21N_Y (io), G13 I/O, L25N_YY (io), G14 I/O, L27P_Y (io), G15 I/O (D3), L28N (io), G16 I/O, L30P_YY (io), H13 I/O, L27N_YY (io), H14 I/O, L29N_Y (io), H15 I/O, L29P_Y (io), H16 I/O (IRDY), L30N_YY (io)
part D pins: J13 I/O (TRDY) (io), J14 I/O (D4), L32P (io), J15 I/O, L31N_Y (io), J16 I/O, L31P_Y (io), K12 I/O, L33P_YY (io), K13 I/O, VREF 3, L32N (io), K14 I/O, L35P_YY (io), K15 I/O, L34N_Y (io), K16 I/O, L34P_Y (io), L12 I/O, L33N_YY (io), L13 I/O (D5), L35N_YY (io), L14 I/O (io), L15 I/O, VREF 3, L36N (io), L16 I/O (D6), L36P (io), M13 I/O (io), M14 I/O, L39P_YY (io), M15 I/O, VREF 3, L38N (io), M16 I/O, L38P (io), N14 I/O, L39N_YY (io), N15 I/O, L40N_Y (io), N16 I/O, L40P_Y (io), P16 I/O (D7), L41P_YY (io)
part E pins: M10 I/O, L48P_Y (io), M11 I/O, VREF 4, L45P_YY (io), N9 I/O, L51P (io), N10 I/O, L48N_Y (io), N11 I/O, L45N_YY (io), N12 I/O, L44P_YY (io), P9 I/O, L51N (io), P10 I/O, L49N (io), P11 I/O, L47N_Y (io), P12 I/O, L44N_YY (io), P13 I/O, L43P (io), R9 I/O (DLL), L52P (io), R10 I/O, VREF 4, L50P (io), R11 I/O, L49P (io), R12 I/O, VREF 4, L47P_Y (io), R13 I/O, L43N (io), R14 I/O, L42P_YY (io), T10 I/O, L50N (io), T11 I/O (io), T12 I/O, L46N_Y (io), T13 I/O, L46P_Y (io), T14 I/O, L42N_YY (io)
part F pins: M6 I/O, L55N_Y (io), M7 I/O, VREF 5, L53N (io), N5 I/O, L59N_YY (io), N6 I/O, L57N_Y (io), N7 I/O, L55P_Y (io), N8 I/O, L53P (io), P4 I/O, L61N_YY (io), P5 I/O, L59P_YY (io), P6 I/O, L57P_Y (io), P7 I/O (io), P8 I/O (io), R4 I/O, L61P_YY (io), R5 I/O, VREF 5, L58N_YY (io), R6 I/O, VREF 5, L56N_Y (io), R7 I/O, L54N (io), R8 I/O (DLL), L52N (io), T3 I/O, L60N_Y (io), T4 I/O, L60P_Y (io), T5 I/O, L58P_YY (io), T6 I/O, L56P_Y (io), T7 I/O, L54P (io)
part G pins: J1 I/O, L71P (io), J2 I/O, L72P_Y (io), J3 I/O, L72N_Y (io), J4 I/O (TRDY) (io), K1 I/O, VREF 6, L71N (io), K2 I/O, L70P_YY (io), K3 I/O, L70N_YY (io), K4 I/O, L68P_YY (io), K5 I/O, L68N_YY (io), L1 I/O, L69P_Y (io), L2 I/O, L69N_Y (io), L3 I/O, L67P (io), L4 I/O, L65P (io), L5 I/O, VREF 6, L65N (io), M1 I/O, L66P (io), M2 I/O, VREF 6, L67N (io), M3 I/O, L64P_YY (io), M4 I/O, L64N_YY (io), N1 I/O, L66N (io), N2 I/O, L63P_Y (io), N3 I/O, L63N_Y (io), P1 I/O, L62P_YY (io), P2 I/O, L62N_YY (io)
part H pins: C1 I/O, L83N_Y (io), C2 I/O, L83P_Y (io), D1 I/O, L82N_YY (io), D2 I/O, L82P_YY (io), D3 I/O (io), E1 I/O, L80N (io), E2 I/O, L80P (io), E3 I/O, VREF 7, L81P (io), E4 I/O, L81N (io), F1 I/O, L78N_YY (io), F2 I/O, L78P_YY (io), F3 I/O, L79N (io), F4 I/O, VREF 7, L79P (io), F5 I/O, L77P_Y (io), G1 I/O, L75N (io), G2 I/O, VREF 7, L75P (io), G3 I/O, L76P_YY (io), G4 I/O, L76N_YY (io), G5 I/O, L77N_Y (io), H1 I/O (IRDY), L73N_YY (io), H2 I/O, L73P_YY (io), H3 I/O, L74N_Y (io), H4 I/O, L74P_Y (io)
part I pins: B8 GCK2, I (in), C8 GCK3, I (in), T8 GCK1, I (in), T9 GCK0, I (in)
part J pins: A2 TCK (in), A15 CCLK (io), B1 TMS (in), B14 TDO (out), B16 DIN (io) "I/O (DIN, D0), L19N_YY", C13 TDI (in), P15 ~{INIT} (io) "I/O (I\N\I\T\), L41N_YY", R1 M1 (in), R3 M2 (in), R16 PROGRAM (in), T2 M0 (in), T15 DONE (io)
part K pins: C3 VCCINT (power), C14 VCCINT (power), D4 VCCINT (power), D13 VCCINT (power), E5 VCCINT (power), E8 VCCO Bank 0 (power), E9 VCCO Bank 1 (power), E12 VCCINT (power), F7 VCCO Bank 0 (power), F8 VCCO Bank 0 (power), F9 VCCO Bank 1 (power), F10 VCCO Bank 1 (power), G6 VCCO Bank 7 (power), G11 VCCO Bank 2 (power), H5 VCCO Bank 7 (power), H6 VCCO Bank 7 (power), H11 VCCO Bank 2 (power), H12 VCCO Bank 2 (power), J5 VCCO Bank 6 (power), J6 VCCO Bank 6 (power), J11 VCCO Bank 3 (power), J12 VCCO Bank 3 (power), K6 VCCO Bank 6 (power), K11 VCCO Bank 3 (power), L7 VCCO Bank 5 (power), L8 VCCO Bank 5 (power), L9 VCCO Bank 4 (power), L10 VCCO Bank 4 (power), M5 VCCINT (power), M8 VCCO Bank 5 (power), M9 VCCO Bank 4 (power), M12 VCCINT (power), N4 VCCINT (power), N13 VCCINT (power), P3 VCCINT (power), P14 VCCINT (power)
part L pins: A1 GND (power), A16 GND (power), B2 GND (power), B15 GND (power), F6 GND (power), F11 GND (power), G7 GND (power), G8 GND (power), G9 GND (power), G10 GND (power), H7 GND (power), H8 GND (power), H9 GND (power), H10 GND (power), J7 GND (power), J8 GND (power), J9 GND (power), J10 GND (power), K7 GND (power), K8 GND (power), K9 GND (power), K10 GND (power), L6 GND (power), L11 GND (power), R2 GND (power), R15 GND (power), T1 GND (power), T16 GND (power)
part A text: BANK 0
part B text: BANK 1
part C text: BANK 2
part D text: BANK 3
part E text: BANK 4
part F text: BANK 5
part G text: BANK 6
part H text: BANK 7

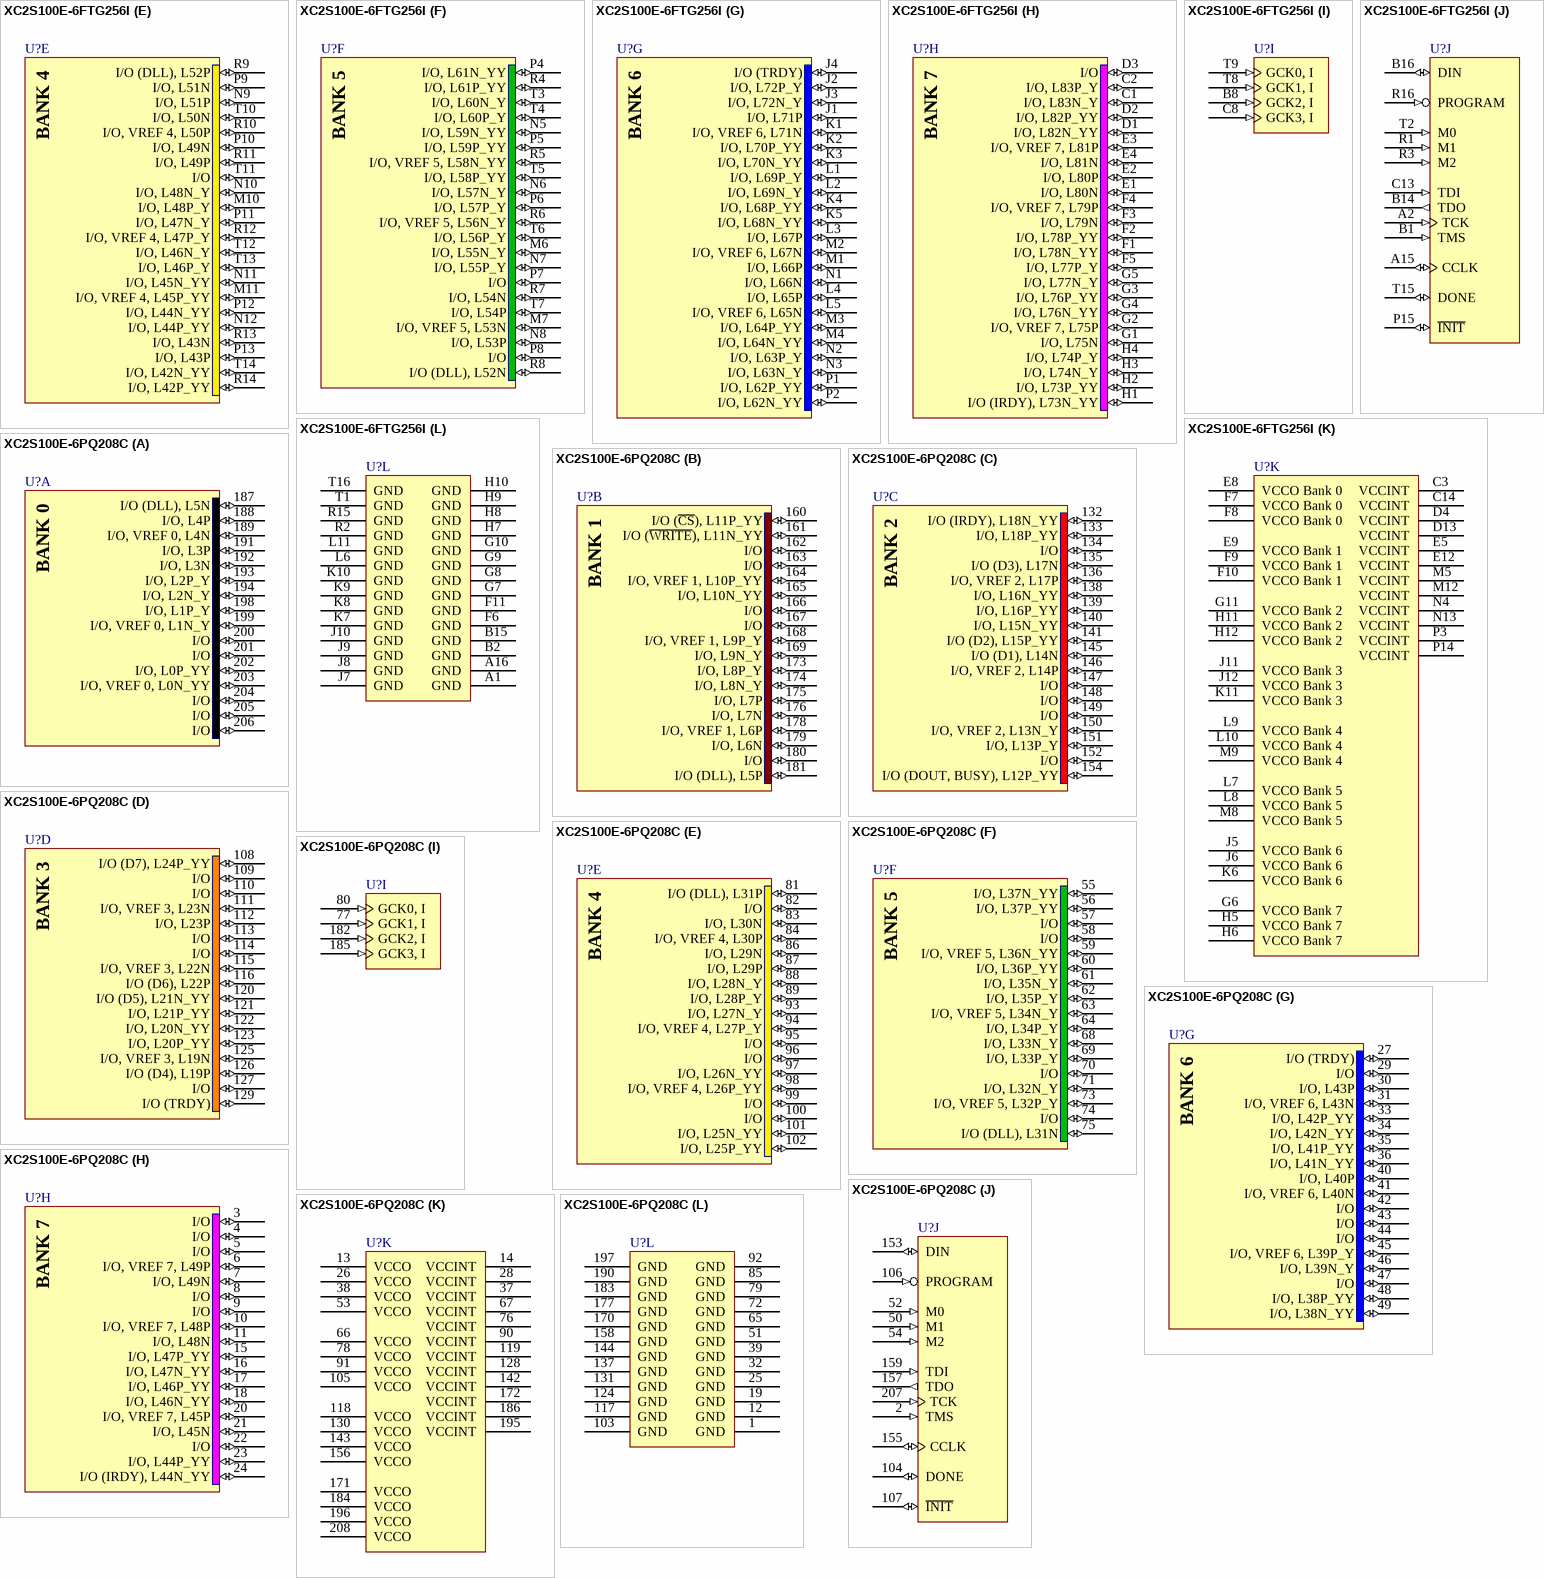
[diagram p24: symbols XC2S100E-6FTG256I to XC2S100E-6PQ208C]

## XC2S100E-6FTG256I
designator U?
Spartan-IIE 1.8V FPGA, 182 User I/Os, 256-Ball FTBGA, Standard Performance, Industrial Grade, Pb-Free; Published: 2-Mar-2006; LatestRevisionDate: 16-Nov-2009; LatestRevisionNote: Updated to datasheet version 2.3 Jun-2008.; DatasheetVersion: ver2.3, Jun-2008; PackageVersion: ver1.3, Oct-2007; PackageReference: FTG256; Publisher: Altium Limited; PackageDescription: 256-Ball Fine Pitch Thin Ball Grid Array 1.00 mm Pitch (FTG256) - Pb-Free; Code_JEDEC: MS-034-AAF-1*; ComponentLink1Description: Spartan-IIE Datasheet; ComponentLink1URL: http://www.xilinx.com/support/documentation/data_sheets/ds077.pdf; ComponentLink2Description: FTG256 Package Drawing; ComponentLink2URL: http://www.xilinx.com/support/documentation/package_specs/ft256.pdf; ComponentLink3Description: Spartan-IIE Documents; ComponentLink3URL: http://www.xilinx.com/support/documentation/spartan-iie.htm; ComponentLink4Description: Xilinx.com Home; ComponentLink4URL: http://www.xilinx.com
footprint FTG256 (BGA, 256-Leads, Body 17x17mm, Pitch 1mm)
signal-integrity model XC2S100E_FTG256 (Spartan-IIE)
part A pins: A3 I/O, L0N_YY (io), A4 I/O, L0P_YY (io), A5 I/O, L4P_Y (io), A6 I/O (io), A7 I/O (io), B3 I/O (io), B4 I/O, L1P_YY (io), B5 I/O, VREF 0, L4N_Y (io), B6 I/O, L5P_Y (io), B7 I/O, L6N (io), C4 I/O, L1N_YY (io), C5 I/O, VREF 0, L2N_YY (io), C6 I/O, L5N_Y (io), C7 I/O, L6P (io), D5 I/O, L2P_YY (io), D6 I/O, L3P_Y (io), D7 I/O, VREF 0, L7N (io), D8 I/O (DLL), L8N (io), E6 I/O, L3N_Y (io), E7 I/O, L7P (io)
part B pins: A8 I/O (DLL), L8P (io), A9 I/O, L9N (io), A10 I/O, L11N (io), A11 I/O, L13N_Y (io), A12 I/O, L16N_YY (io), A13 I/O (~{WRITE}), L18N_YY (io), A14 I/O (~{CS}), L18P_YY (io), B9 I/O, L9P (io), B10 I/O, L11P (io), B11 I/O, VREF 1, L13P_Y (io), B12 I/O, L16P_YY (io), B13 I/O, L17P_Y (io), C9 I/O, L10N (io), C10 I/O (io), C11 I/O, L14N_Y (io), C12 I/O, L17N_Y (io), D9 I/O, VREF 1, L10P (io), D10 I/O, L12N_Y (io), D11 I/O, L14P_Y (io), D12 I/O, VREF 1, L15P_YY (io), E10 I/O, L12P_Y (io), E11 I/O, L15N_YY (io)
part C pins: C15 I/O (DOUT, BUSY), L19P_YY (io), C16 I/O, VREF 2, L22P (io), D14 I/O, L20P_Y (io), D15 I/O, L22N (io), D16 I/O, VREF 2, L24P (io), E13 I/O, L20N_Y (io), E14 I/O, L23P (io), E15 I/O (D1), L24N (io), E16 I/O, L26P_Y (io), F12 I/O, L21P_Y (io), F13 I/O, L23N (io), F14 I/O (D2), L25P_YY (io), F15 I/O, L26N_Y (io), F16 I/O, VREF 2, L28P (io), G12 I/O, L21N_Y (io), G13 I/O, L25N_YY (io), G14 I/O, L27P_Y (io), G15 I/O (D3), L28N (io), G16 I/O, L30P_YY (io), H13 I/O, L27N_YY (io), H14 I/O, L29N_Y (io), H15 I/O, L29P_Y (io), H16 I/O (IRDY), L30N_YY (io)
part D pins: J13 I/O (TRDY) (io), J14 I/O (D4), L32P (io), J15 I/O, L31N_Y (io), J16 I/O, L31P_Y (io), K12 I/O, L33P_YY (io), K13 I/O, VREF 3, L32N (io), K14 I/O, L35P_YY (io), K15 I/O, L34N_Y (io), K16 I/O, L34P_Y (io), L12 I/O, L33N_YY (io), L13 I/O (D5), L35N_YY (io), L14 I/O (io), L15 I/O, VREF 3, L36N (io), L16 I/O (D6), L36P (io), M13 I/O (io), M14 I/O, L39P_YY (io), M15 I/O, VREF 3, L38N (io), M16 I/O, L38P (io), N14 I/O, L39N_YY (io), N15 I/O, L40N_Y (io), N16 I/O, L40P_Y (io), P16 I/O (D7), L41P_YY (io)
part E pins: M10 I/O, L48P_Y (io), M11 I/O, VREF 4, L45P_YY (io), N9 I/O, L51P (io), N10 I/O, L48N_Y (io), N11 I/O, L45N_YY (io), N12 I/O, L44P_YY (io), P9 I/O, L51N (io), P10 I/O, L49N (io), P11 I/O, L47N_Y (io), P12 I/O, L44N_YY (io), P13 I/O, L43P (io), R9 I/O (DLL), L52P (io), R10 I/O, VREF 4, L50P (io), R11 I/O, L49P (io), R12 I/O, VREF 4, L47P_Y (io), R13 I/O, L43N (io), R14 I/O, L42P_YY (io), T10 I/O, L50N (io), T11 I/O (io), T12 I/O, L46N_Y (io), T13 I/O, L46P_Y (io), T14 I/O, L42N_YY (io)
part F pins: M6 I/O, L55N_Y (io), M7 I/O, VREF 5, L53N (io), N5 I/O, L59N_YY (io), N6 I/O, L57N_Y (io), N7 I/O, L55P_Y (io), N8 I/O, L53P (io), P4 I/O, L61N_YY (io), P5 I/O, L59P_YY (io), P6 I/O, L57P_Y (io), P7 I/O (io), P8 I/O (io), R4 I/O, L61P_YY (io), R5 I/O, VREF 5, L58N_YY (io), R6 I/O, VREF 5, L56N_Y (io), R7 I/O, L54N (io), R8 I/O (DLL), L52N (io), T3 I/O, L60N_Y (io), T4 I/O, L60P_Y (io), T5 I/O, L58P_YY (io), T6 I/O, L56P_Y (io), T7 I/O, L54P (io)
part G pins: J1 I/O, L71P (io), J2 I/O, L72P_Y (io), J3 I/O, L72N_Y (io), J4 I/O (TRDY) (io), K1 I/O, VREF 6, L71N (io), K2 I/O, L70P_YY (io), K3 I/O, L70N_YY (io), K4 I/O, L68P_YY (io), K5 I/O, L68N_YY (io), L1 I/O, L69P_Y (io), L2 I/O, L69N_Y (io), L3 I/O, L67P (io), L4 I/O, L65P (io), L5 I/O, VREF 6, L65N (io), M1 I/O, L66P (io), M2 I/O, VREF 6, L67N (io), M3 I/O, L64P_YY (io), M4 I/O, L64N_YY (io), N1 I/O, L66N (io), N2 I/O, L63P_Y (io), N3 I/O, L63N_Y (io), P1 I/O, L62P_YY (io), P2 I/O, L62N_YY (io)
part H pins: C1 I/O, L83N_Y (io), C2 I/O, L83P_Y (io), D1 I/O, L82N_YY (io), D2 I/O, L82P_YY (io), D3 I/O (io), E1 I/O, L80N (io), E2 I/O, L80P (io), E3 I/O, VREF 7, L81P (io), E4 I/O, L81N (io), F1 I/O, L78N_YY (io), F2 I/O, L78P_YY (io), F3 I/O, L79N (io), F4 I/O, VREF 7, L79P (io), F5 I/O, L77P_Y (io), G1 I/O, L75N (io), G2 I/O, VREF 7, L75P (io), G3 I/O, L76P_YY (io), G4 I/O, L76N_YY (io), G5 I/O, L77N_Y (io), H1 I/O (IRDY), L73N_YY (io), H2 I/O, L73P_YY (io), H3 I/O, L74N_Y (io), H4 I/O, L74P_Y (io)
part I pins: B8 GCK2, I (in), C8 GCK3, I (in), T8 GCK1, I (in), T9 GCK0, I (in)
part J pins: A2 TCK (in), A15 CCLK (io), B1 TMS (in), B14 TDO (out), B16 DIN (io) "I/O (DIN, D0), L19N_YY", C13 TDI (in), P15 ~{INIT} (io) "I/O (I\N\I\T\), L41N_YY", R1 M1 (in), R3 M2 (in), R16 PROGRAM (in), T2 M0 (in), T15 DONE (io)
part K pins: C3 VCCINT (power), C14 VCCINT (power), D4 VCCINT (power), D13 VCCINT (power), E5 VCCINT (power), E8 VCCO Bank 0 (power), E9 VCCO Bank 1 (power), E12 VCCINT (power), F7 VCCO Bank 0 (power), F8 VCCO Bank 0 (power), F9 VCCO Bank 1 (power), F10 VCCO Bank 1 (power), G6 VCCO Bank 7 (power), G11 VCCO Bank 2 (power), H5 VCCO Bank 7 (power), H6 VCCO Bank 7 (power), H11 VCCO Bank 2 (power), H12 VCCO Bank 2 (power), J5 VCCO Bank 6 (power), J6 VCCO Bank 6 (power), J11 VCCO Bank 3 (power), J12 VCCO Bank 3 (power), K6 VCCO Bank 6 (power), K11 VCCO Bank 3 (power), L7 VCCO Bank 5 (power), L8 VCCO Bank 5 (power), L9 VCCO Bank 4 (power), L10 VCCO Bank 4 (power), M5 VCCINT (power), M8 VCCO Bank 5 (power), M9 VCCO Bank 4 (power), M12 VCCINT (power), N4 VCCINT (power), N13 VCCINT (power), P3 VCCINT (power), P14 VCCINT (power)
part L pins: A1 GND (power), A16 GND (power), B2 GND (power), B15 GND (power), F6 GND (power), F11 GND (power), G7 GND (power), G8 GND (power), G9 GND (power), G10 GND (power), H7 GND (power), H8 GND (power), H9 GND (power), H10 GND (power), J7 GND (power), J8 GND (power), J9 GND (power), J10 GND (power), K7 GND (power), K8 GND (power), K9 GND (power), K10 GND (power), L6 GND (power), L11 GND (power), R2 GND (power), R15 GND (power), T1 GND (power), T16 GND (power)
part A text: BANK 0
part B text: BANK 1
part C text: BANK 2
part D text: BANK 3
part E text: BANK 4
part F text: BANK 5
part G text: BANK 6
part H text: BANK 7

## XC2S100E-6PQ208C
designator U?
Spartan-IIE 1.8V FPGA, 146 User I/Os, 208-Pin PQFP, Standard Performance, Commercial Grade; Published: 19-Jul-2002; LatestRevisionDate: 16-Nov-2009; LatestRevisionNote: Updated to datasheet version 2.3 Jun-2008.; DatasheetVersion: ver2.3, Jun-2008; PackageVersion: ver1.2, Jun-2004; PackageReference: PQ208; Publisher: Altium Limited; PackageDescription: 208-Pin Plastic Quad Flat Pack (PQ208); Supplier 1: Digi-Key; Supplier Part Number 1: 122-1207-ND; Code_JEDEC: MS-029-FA-1; ComponentLink1Description: Spartan-IIE Datasheet; ComponentLink1URL: http://www.xilinx.com/support/documentation/data_sheets/ds077.pdf; ComponentLink2Description: PQ208 Package Drawing; ComponentLink2URL: http://www.xilinx.com/support/documentation/package_specs/pq208.pdf; ComponentLink3Description: Spartan-IIE Documents; ComponentLink3URL: http://www.xilinx.com/support/documentation/spartan-iie.htm; ComponentLink4Description: Xilinx.com Home; ComponentLink4URL: http://www.xilinx.com
footprint PQ208_N (Shrink QFP, 208-Leads, Body 28x28mm, Pitch 0.5mm, IPC Medium Density)
footprint PQ208_L (Shrink QFP, 208-Leads, Body 28x28mm, Pitch 0.5mm, IPC High Density)
footprint PQ208_M (Shrink QFP, 208-Leads, Body 28x28mm, Pitch 0.5mm, IPC Low Density)
signal-integrity model XC2S100E_PQ208 (Spartan-IIE)
part A pins: 187 I/O (DLL), L5N (io), 188 I/O, L4P (io), 189 I/O, VREF 0, L4N (io), 191 I/O, L3P (io), 192 I/O, L3N (io), 193 I/O, L2P_Y (io), 194 I/O, L2N_Y (io), 198 I/O, L1P_Y (io), 199 I/O, VREF 0, L1N_Y (io), 200 I/O (io), 201 I/O (io), 202 I/O, L0P_YY (io), 203 I/O, VREF 0, L0N_YY (io), 204 I/O (io), 205 I/O (io), 206 I/O (io)
part B pins: 160 I/O (~{CS}), L11P_YY (io), 161 I/O (~{WRITE}), L11N_YY (io), 162 I/O (io), 163 I/O (io), 164 I/O, VREF 1, L10P_YY (io), 165 I/O, L10N_YY (io), 166 I/O (io), 167 I/O (io), 168 I/O, VREF 1, L9P_Y (io), 169 I/O, L9N_Y (io), 173 I/O, L8P_Y (io), 174 I/O, L8N_Y (io), 175 I/O, L7P (io), 176 I/O, L7N (io), 178 I/O, VREF 1, L6P (io), 179 I/O, L6N (io), 180 I/O (io), 181 I/O (DLL), L5P (io)
part C pins: 132 I/O (IRDY), L18N_YY (io), 133 I/O, L18P_YY (io), 134 I/O (io), 135 I/O (D3), L17N (io), 136 I/O, VREF 2, L17P (io), 138 I/O, L16N_YY (io), 139 I/O, L16P_YY (io), 140 I/O, L15N_YY (io), 141 I/O (D2), L15P_YY (io), 145 I/O (D1), L14N (io), 146 I/O, VREF 2, L14P (io), 147 I/O (io), 148 I/O (io), 149 I/O (io), 150 I/O, VREF 2, L13N_Y (io), 151 I/O, L13P_Y (io), 152 I/O (io), 154 I/O (DOUT, BUSY), L12P_YY (io)
part D pins: 108 I/O (D7), L24P_YY (io), 109 I/O (io), 110 I/O (io), 111 I/O, VREF 3, L23N (io), 112 I/O, L23P (io), 113 I/O (io), 114 I/O (io), 115 I/O, VREF 3, L22N (io), 116 I/O (D6), L22P (io), 120 I/O (D5), L21N_YY (io), 121 I/O, L21P_YY (io), 122 I/O, L20N_YY (io), 123 I/O, L20P_YY (io), 125 I/O, VREF 3, L19N (io), 126 I/O (D4), L19P (io), 127 I/O (io), 129 I/O (TRDY) (io)
part E pins: 81 I/O (DLL), L31P (io), 82 I/O (io), 83 I/O, L30N (io), 84 I/O, VREF 4, L30P (io), 86 I/O, L29N (io), 87 I/O, L29P (io), 88 I/O, L28N_Y (io), 89 I/O, L28P_Y (io), 93 I/O, L27N_Y (io), 94 I/O, VREF 4, L27P_Y (io), 95 I/O (io), 96 I/O (io), 97 I/O, L26N_YY (io), 98 I/O, VREF 4, L26P_YY (io), 99 I/O (io), 100 I/O (io), 101 I/O, L25N_YY (io), 102 I/O, L25P_YY (io)
part F pins: 55 I/O, L37N_YY (io), 56 I/O, L37P_YY (io), 57 I/O (io), 58 I/O (io), 59 I/O, VREF 5, L36N_YY (io), 60 I/O, L36P_YY (io), 61 I/O, L35N_Y (io), 62 I/O, L35P_Y (io), 63 I/O, VREF 5, L34N_Y (io), 64 I/O, L34P_Y (io), 68 I/O, L33N_Y (io), 69 I/O, L33P_Y (io), 70 I/O (io), 71 I/O, L32N_Y (io), 73 I/O, VREF 5, L32P_Y (io), 74 I/O (io), 75 I/O (DLL), L31N (io)
part G pins: 27 I/O (TRDY) (io), 29 I/O (io), 30 I/O, L43P (io), 31 I/O, VREF 6, L43N (io), 33 I/O, L42P_YY (io), 34 I/O, L42N_YY (io), 35 I/O, L41P_YY (io), 36 I/O, L41N_YY (io), 40 I/O, L40P (io), 41 I/O, VREF 6, L40N (io), 42 I/O (io), 43 I/O (io), 44 I/O (io), 45 I/O, VREF 6, L39P_Y (io), 46 I/O, L39N_Y (io), 47 I/O (io), 48 I/O, L38P_YY (io), 49 I/O, L38N_YY (io)
part H pins: 3 I/O (io), 4 I/O (io), 5 I/O (io), 6 I/O, VREF 7, L49P (io), 7 I/O, L49N (io), 8 I/O (io), 9 I/O (io), 10 I/O, VREF 7, L48P (io), 11 I/O, L48N (io), 15 I/O, L47P_YY (io), 16 I/O, L47N_YY (io), 17 I/O, L46P_YY (io), 18 I/O, L46N_YY (io), 20 I/O, VREF 7, L45P (io), 21 I/O, L45N (io), 22 I/O (io), 23 I/O, L44P_YY (io), 24 I/O (IRDY), L44N_YY (io)
part I pins: 77 GCK1, I (in), 80 GCK0, I (in), 182 GCK2, I (in), 185 GCK3, I (in)
part J pins: 2 TMS (in), 50 M1 (in), 52 M0 (in), 54 M2 (in), 104 DONE (io), 106 PROGRAM (in), 107 ~{INIT} (io) "I/O (I\N\I\T\), L24N_YY", 153 DIN (io) "I/O (DIN, D0), L12N_YY", 155 CCLK (io), 157 TDO (out), 159 TDI (in), 207 TCK (in)
part K pins: 13 VCCO (power), 14 VCCINT (power), 26 VCCO (power), 28 VCCINT (power), 37 VCCINT (power), 38 VCCO (power), 53 VCCO (power), 66 VCCO (power), 67 VCCINT (power), 76 VCCINT (power), 78 VCCO (power), 90 VCCINT (power), 91 VCCO (power), 105 VCCO (power), 118 VCCO (power), 119 VCCINT (power), 128 VCCINT (power), 130 VCCO (power), 142 VCCINT (power), 143 VCCO (power), 156 VCCO (power), 171 VCCO (power), 172 VCCINT (power), 184 VCCO (power), 186 VCCINT (power), 195 VCCINT (power), 196 VCCO (power), 208 VCCO (power)
part L pins: 1 GND (power), 12 GND (power), 19 GND (power), 25 GND (power), 32 GND (power), 39 GND (power), 51 GND (power), 65 GND (power), 72 GND (power), 79 GND (power), 85 GND (power), 92 GND (power), 103 GND (power), 117 GND (power), 124 GND (power), 131 GND (power), 137 GND (power), 144 GND (power), 158 GND (power), 170 GND (power), 177 GND (power), 183 GND (power), 190 GND (power), 197 GND (power)
part A text: BANK 0
part B text: BANK 1
part C text: BANK 2
part D text: BANK 3
part E text: BANK 4
part F text: BANK 5
part G text: BANK 6
part H text: BANK 7

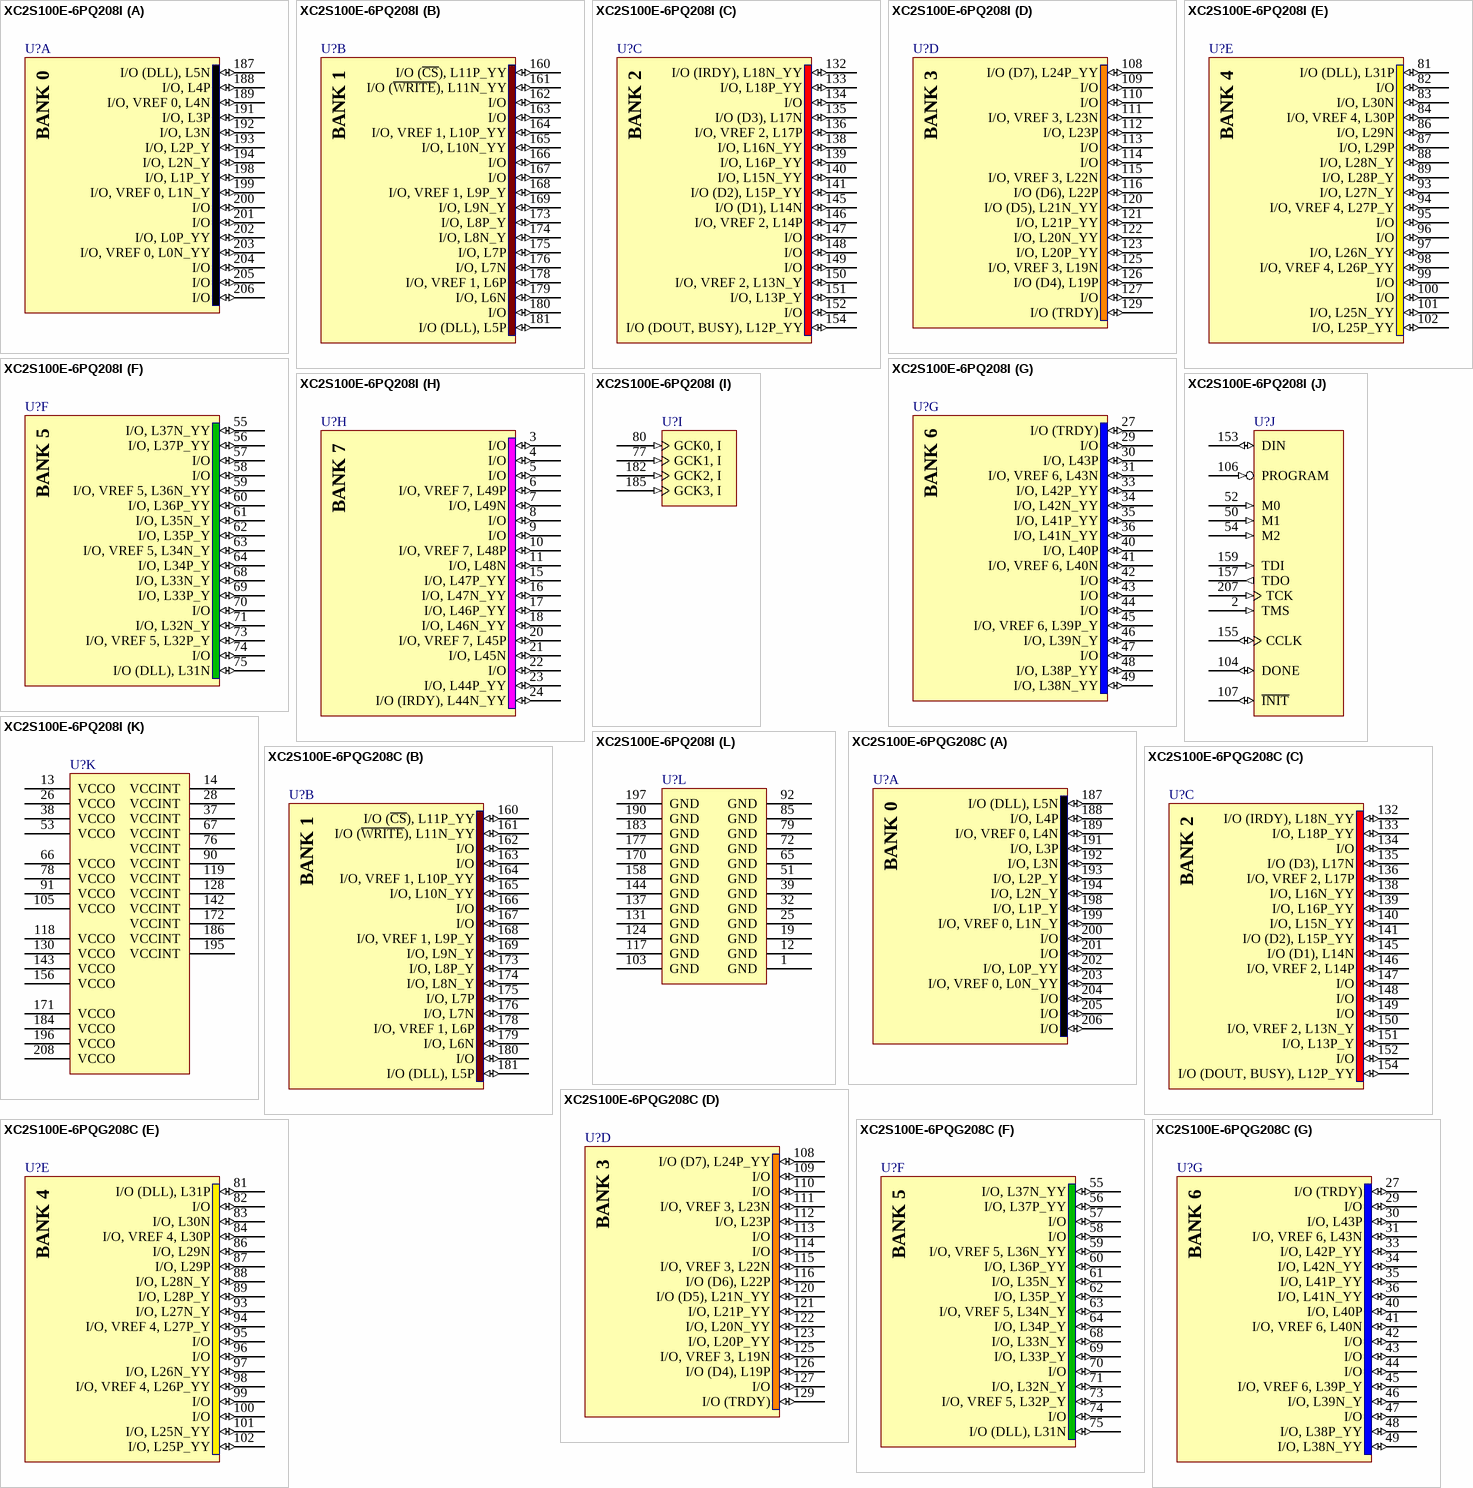
[diagram p25: symbols XC2S100E-6PQ208I to XC2S100E-6PQG208C]

## XC2S100E-6PQ208I
designator U?
Spartan-IIE 1.8V FPGA, 146 User I/Os, 208-Pin PQFP, Standard Performance, Industrial Grade; Published: 19-Jul-2002; LatestRevisionDate: 16-Nov-2009; LatestRevisionNote: Updated to datasheet version 2.3 Jun-2008.; DatasheetVersion: ver2.3, Jun-2008; PackageVersion: ver1.2, Jun-2004; PackageReference: PQ208; Publisher: Altium Limited; PackageDescription: 208-Pin Plastic Quad Flat Pack (PQ208); Code_JEDEC: MS-029-FA-1; ComponentLink1Description: Spartan-IIE Datasheet; ComponentLink1URL: http://www.xilinx.com/support/documentation/data_sheets/ds077.pdf; ComponentLink2Description: PQ208 Package Drawing; ComponentLink2URL: http://www.xilinx.com/support/documentation/package_specs/pq208.pdf; ComponentLink3Description: Spartan-IIE Documents; ComponentLink3URL: http://www.xilinx.com/support/documentation/spartan-iie.htm; ComponentLink4Description: Xilinx.com Home; ComponentLink4URL: http://www.xilinx.com
footprint PQ208_N (Shrink QFP, 208-Leads, Body 28x28mm, Pitch 0.5mm, IPC Medium Density)
footprint PQ208_L (Shrink QFP, 208-Leads, Body 28x28mm, Pitch 0.5mm, IPC High Density)
footprint PQ208_M (Shrink QFP, 208-Leads, Body 28x28mm, Pitch 0.5mm, IPC Low Density)
signal-integrity model XC2S100E_PQ208 (Spartan-IIE)
part A pins: 187 I/O (DLL), L5N (io), 188 I/O, L4P (io), 189 I/O, VREF 0, L4N (io), 191 I/O, L3P (io), 192 I/O, L3N (io), 193 I/O, L2P_Y (io), 194 I/O, L2N_Y (io), 198 I/O, L1P_Y (io), 199 I/O, VREF 0, L1N_Y (io), 200 I/O (io), 201 I/O (io), 202 I/O, L0P_YY (io), 203 I/O, VREF 0, L0N_YY (io), 204 I/O (io), 205 I/O (io), 206 I/O (io)
part B pins: 160 I/O (~{CS}), L11P_YY (io), 161 I/O (~{WRITE}), L11N_YY (io), 162 I/O (io), 163 I/O (io), 164 I/O, VREF 1, L10P_YY (io), 165 I/O, L10N_YY (io), 166 I/O (io), 167 I/O (io), 168 I/O, VREF 1, L9P_Y (io), 169 I/O, L9N_Y (io), 173 I/O, L8P_Y (io), 174 I/O, L8N_Y (io), 175 I/O, L7P (io), 176 I/O, L7N (io), 178 I/O, VREF 1, L6P (io), 179 I/O, L6N (io), 180 I/O (io), 181 I/O (DLL), L5P (io)
part C pins: 132 I/O (IRDY), L18N_YY (io), 133 I/O, L18P_YY (io), 134 I/O (io), 135 I/O (D3), L17N (io), 136 I/O, VREF 2, L17P (io), 138 I/O, L16N_YY (io), 139 I/O, L16P_YY (io), 140 I/O, L15N_YY (io), 141 I/O (D2), L15P_YY (io), 145 I/O (D1), L14N (io), 146 I/O, VREF 2, L14P (io), 147 I/O (io), 148 I/O (io), 149 I/O (io), 150 I/O, VREF 2, L13N_Y (io), 151 I/O, L13P_Y (io), 152 I/O (io), 154 I/O (DOUT, BUSY), L12P_YY (io)
part D pins: 108 I/O (D7), L24P_YY (io), 109 I/O (io), 110 I/O (io), 111 I/O, VREF 3, L23N (io), 112 I/O, L23P (io), 113 I/O (io), 114 I/O (io), 115 I/O, VREF 3, L22N (io), 116 I/O (D6), L22P (io), 120 I/O (D5), L21N_YY (io), 121 I/O, L21P_YY (io), 122 I/O, L20N_YY (io), 123 I/O, L20P_YY (io), 125 I/O, VREF 3, L19N (io), 126 I/O (D4), L19P (io), 127 I/O (io), 129 I/O (TRDY) (io)
part E pins: 81 I/O (DLL), L31P (io), 82 I/O (io), 83 I/O, L30N (io), 84 I/O, VREF 4, L30P (io), 86 I/O, L29N (io), 87 I/O, L29P (io), 88 I/O, L28N_Y (io), 89 I/O, L28P_Y (io), 93 I/O, L27N_Y (io), 94 I/O, VREF 4, L27P_Y (io), 95 I/O (io), 96 I/O (io), 97 I/O, L26N_YY (io), 98 I/O, VREF 4, L26P_YY (io), 99 I/O (io), 100 I/O (io), 101 I/O, L25N_YY (io), 102 I/O, L25P_YY (io)
part F pins: 55 I/O, L37N_YY (io), 56 I/O, L37P_YY (io), 57 I/O (io), 58 I/O (io), 59 I/O, VREF 5, L36N_YY (io), 60 I/O, L36P_YY (io), 61 I/O, L35N_Y (io), 62 I/O, L35P_Y (io), 63 I/O, VREF 5, L34N_Y (io), 64 I/O, L34P_Y (io), 68 I/O, L33N_Y (io), 69 I/O, L33P_Y (io), 70 I/O (io), 71 I/O, L32N_Y (io), 73 I/O, VREF 5, L32P_Y (io), 74 I/O (io), 75 I/O (DLL), L31N (io)
part G pins: 27 I/O (TRDY) (io), 29 I/O (io), 30 I/O, L43P (io), 31 I/O, VREF 6, L43N (io), 33 I/O, L42P_YY (io), 34 I/O, L42N_YY (io), 35 I/O, L41P_YY (io), 36 I/O, L41N_YY (io), 40 I/O, L40P (io), 41 I/O, VREF 6, L40N (io), 42 I/O (io), 43 I/O (io), 44 I/O (io), 45 I/O, VREF 6, L39P_Y (io), 46 I/O, L39N_Y (io), 47 I/O (io), 48 I/O, L38P_YY (io), 49 I/O, L38N_YY (io)
part H pins: 3 I/O (io), 4 I/O (io), 5 I/O (io), 6 I/O, VREF 7, L49P (io), 7 I/O, L49N (io), 8 I/O (io), 9 I/O (io), 10 I/O, VREF 7, L48P (io), 11 I/O, L48N (io), 15 I/O, L47P_YY (io), 16 I/O, L47N_YY (io), 17 I/O, L46P_YY (io), 18 I/O, L46N_YY (io), 20 I/O, VREF 7, L45P (io), 21 I/O, L45N (io), 22 I/O (io), 23 I/O, L44P_YY (io), 24 I/O (IRDY), L44N_YY (io)
part I pins: 77 GCK1, I (in), 80 GCK0, I (in), 182 GCK2, I (in), 185 GCK3, I (in)
part J pins: 2 TMS (in), 50 M1 (in), 52 M0 (in), 54 M2 (in), 104 DONE (io), 106 PROGRAM (in), 107 ~{INIT} (io) "I/O (I\N\I\T\), L24N_YY", 153 DIN (io) "I/O (DIN, D0), L12N_YY", 155 CCLK (io), 157 TDO (out), 159 TDI (in), 207 TCK (in)
part K pins: 13 VCCO (power), 14 VCCINT (power), 26 VCCO (power), 28 VCCINT (power), 37 VCCINT (power), 38 VCCO (power), 53 VCCO (power), 66 VCCO (power), 67 VCCINT (power), 76 VCCINT (power), 78 VCCO (power), 90 VCCINT (power), 91 VCCO (power), 105 VCCO (power), 118 VCCO (power), 119 VCCINT (power), 128 VCCINT (power), 130 VCCO (power), 142 VCCINT (power), 143 VCCO (power), 156 VCCO (power), 171 VCCO (power), 172 VCCINT (power), 184 VCCO (power), 186 VCCINT (power), 195 VCCINT (power), 196 VCCO (power), 208 VCCO (power)
part L pins: 1 GND (power), 12 GND (power), 19 GND (power), 25 GND (power), 32 GND (power), 39 GND (power), 51 GND (power), 65 GND (power), 72 GND (power), 79 GND (power), 85 GND (power), 92 GND (power), 103 GND (power), 117 GND (power), 124 GND (power), 131 GND (power), 137 GND (power), 144 GND (power), 158 GND (power), 170 GND (power), 177 GND (power), 183 GND (power), 190 GND (power), 197 GND (power)
part A text: BANK 0
part B text: BANK 1
part C text: BANK 2
part D text: BANK 3
part E text: BANK 4
part F text: BANK 5
part G text: BANK 6
part H text: BANK 7

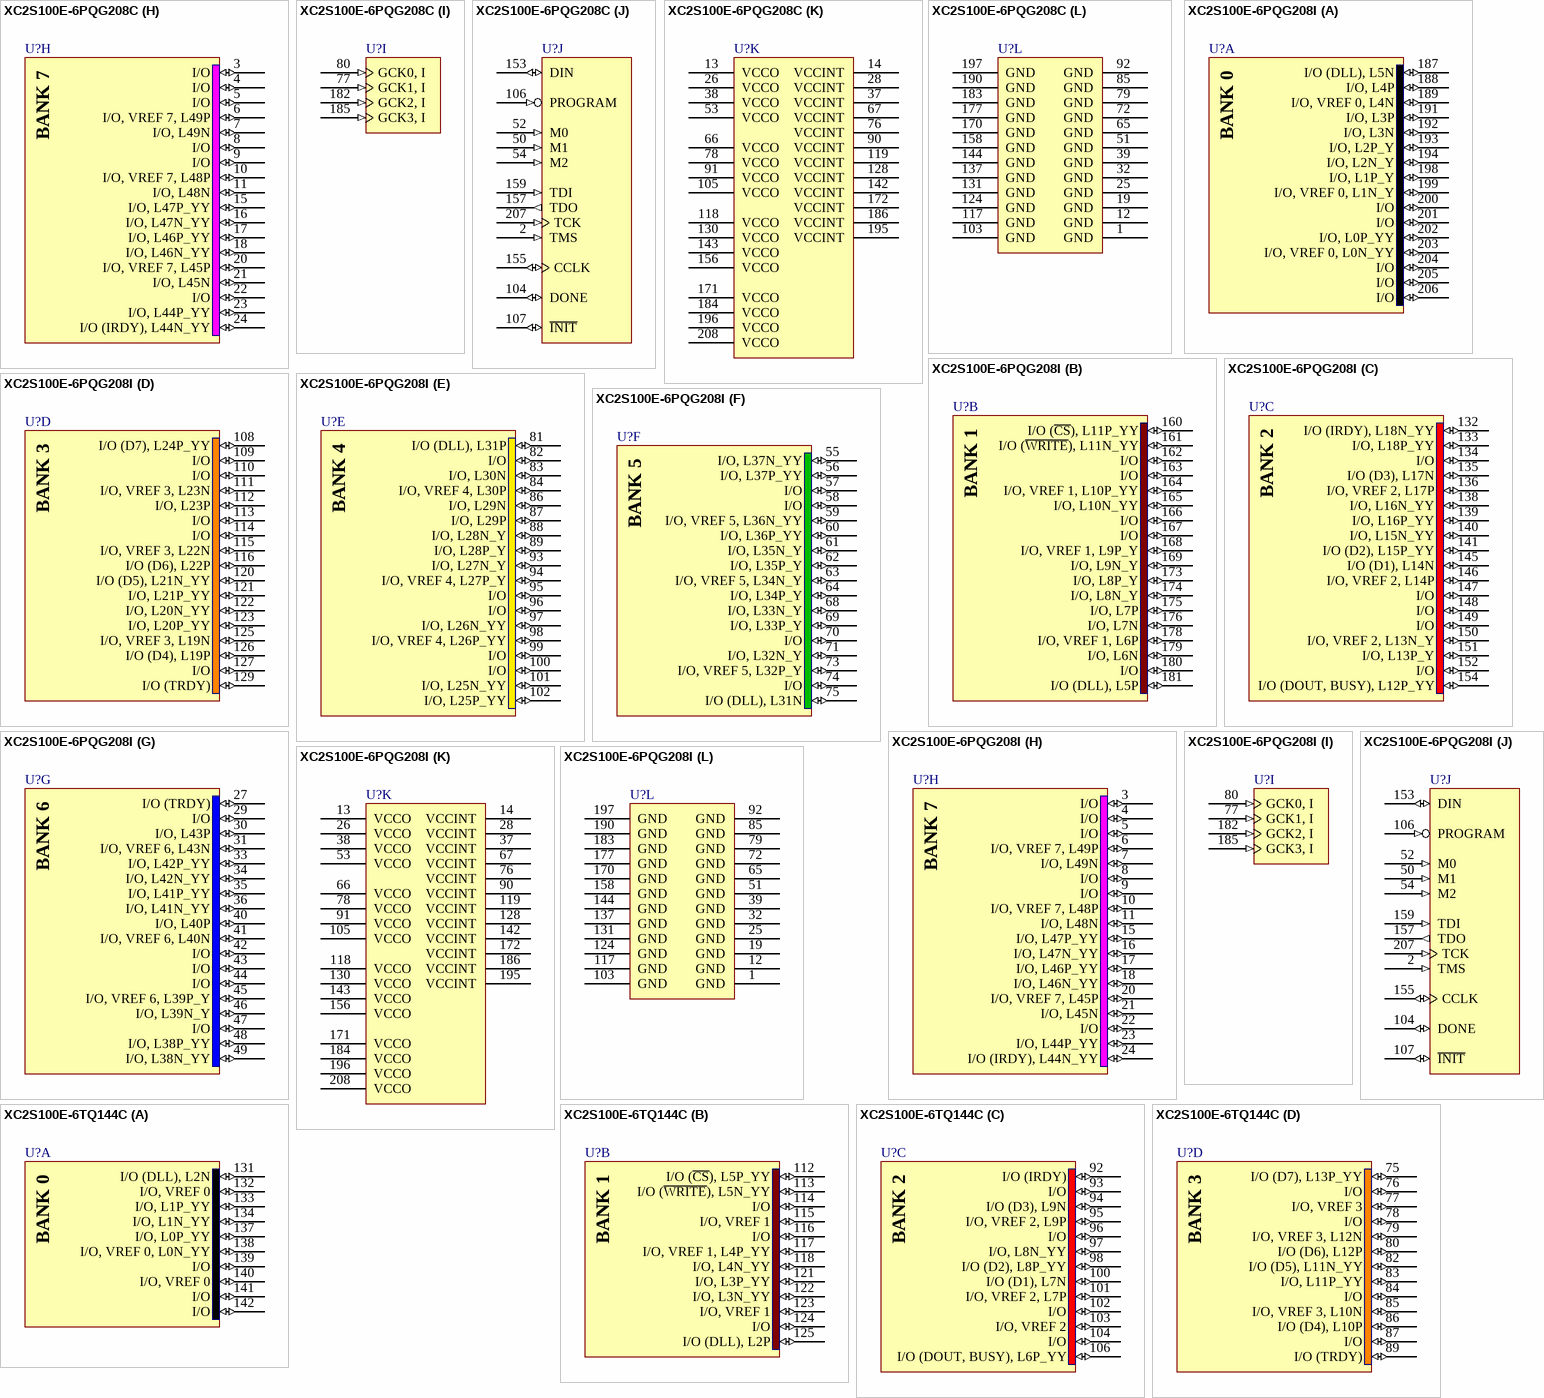
[diagram p26: symbols XC2S100E-6PQG208C to XC2S100E-6TQ144C]